# Altium schematic symbol library ComponentsLib.SchLib: 116 symbols (part 1 of 2)
Pins are listed as number, name and electrical type; pins without a type are passive.

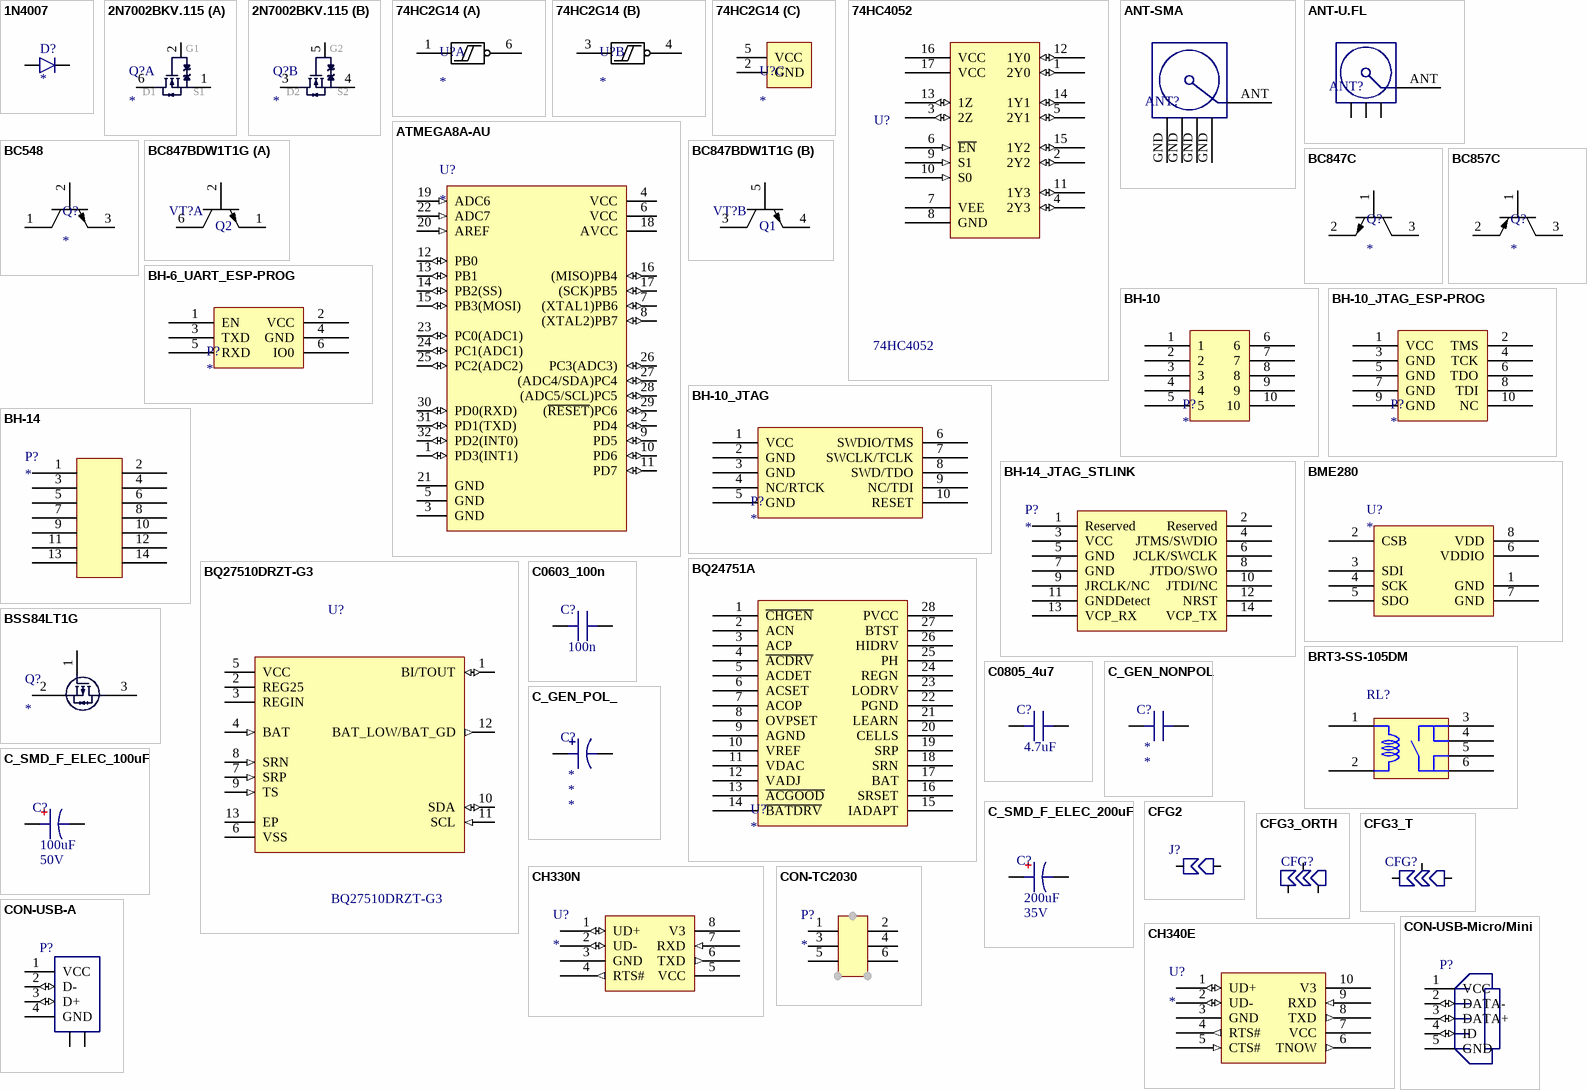
[diagram p0: symbols 1N4007 to CON-USB-Micro/Mini]

## 1N4007
designator D?
footprint DO-41
pins: A POS, C NEG

## 2N7002BKV.115
designator Q?
60 V, 340 mA dual N-channel Trench MOSFET; Kosmodrom: http://www.kosmodrom.com.ua/el.php?name=2N7002BKV.115; PriceKosmodromUAH: 3.5
footprint SOT-666
part A pins: 1 S1, 2 G1, 6 D1
part B pins: 3 D2, 4 S2, 5 G2

## 74HC2G14
designator U?
Dual inverting Schmitt trigger; PriceKosmodromUAH: 4,5; Kosmodrom: http://www.kosmodrom.com.ua/el.php?name=74HC2G14GW.125
footprint SOT363/SOT65P210X110-6N
part A pins: 1 1A, 6 1Y
part B pins: 3 2A, 4 2Y
part C pins: 2 GND, 5 VCC

## 74HC4052
designator U?
Dual 4-channel analog multiplexer/demultiplexer; MP: 74HC4052PW; MF: NXP; Availability: Unavailable; Package: TSSOP-16; Price: None; Value: *
footprint TSSOP16-SOP65P637X110-17N
pins: 1 2Y0 (io), 2 2Y2 (io), 3 2Z (io), 4 2Y3 (io), 5 2Y1 (io), 6 ~{EN} (in), 7 VEE (power), 8 GND (power), 9 S1 (in), 10 S0 (in), 11 1Y3 (io), 12 1Y0 (io), 13 1Z (io), 14 1Y1 (io), 15 1Y2 (io), 16 VCC (power), 17 VCC (power)

## ANT-SMA
designator ANT?, comment SMA  (value not drawn)
Generic SMA connector with 5 pins
footprint SMA-FEMALE-SMT
pins: ANT SIGNAL, GND, GND, GND, GND

## ANT-U.FL
designator ANT?, comment UFL  (value not drawn)
Generic U.FL connector with 1 ANT + 3 GND; Owned: 6; PriceKosmodromUAH: 4,75; PriceRCSUAH: 6; RCS: https://radiomag.prom.ua/p754064376-ipex-vilka-platu.html; Kosmodrom: http://www.kosmodrom.com.ua/el.php?name=U.FL-R-SMT-1[10]
footprint U.FL CONNECTOR
pins: ANT SIGNAL, GND, GND, GND

## ATMEGA8A-AU
designator U?
IC MCU 8BIT 8KB FLASH 32TQFP; MF: Microchip Technology; MP: ATMEGA8A-AU; Value: *; SnapEDA_Link: https://www.snapeda.com/parts/ATMEGA8A-AU/Atmel/view-part/4816316/?ref=snap; Mouser-Purchase-URL: https://snapeda.com/shop?store=Mouser&id=4816316; Price: None; Availability: Unavailable; DigiKey-Purchase-URL: https://snapeda.com/shop?store=DigiKey&id=4816316; Package: None; Arrow_Electronics-Purchase-URL: https://snapeda.com/shop?store=Arrow+Electronics&id=4816316
footprint QFP80P900X900X120-32N
pins: 1 PD3(INT1) (io), 2 PD4 (io), 3 GND (power), 4 VCC (power), 5 GND (power), 6 VCC (power), 7 (XTAL1)PB6 (io), 8 (XTAL2)PB7 (io), 9 PD5 (io), 10 PD6 (io), 11 PD7 (io), 12 PB0 (io), 13 PB1 (io), 14 PB2(SS) (io), 15 PB3(MOSI) (io), 16 (MISO)PB4 (io), 17 (SCK)PB5 (io), 18 AVCC (power), 19 ADC6 (in), 20 AREF (in), 21 GND (power), 22 ADC7 (in), 23 PC0(ADC1) (io), 24 PC1(ADC1) (io), 25 PC2(ADC2) (io), 26 PC3(ADC3) (io), 27 (ADC4/SDA)PC4 (io), 28 (ADC5/SCL)PC5 (io), 29 (~{RESET})PC6 (io), 30 PD0(RXD) (io), 31 PD1(TXD) (io), 32 PD2(INT0) (io)

## BC548
designator Q?
footprint TO-92-BENT-2.54
pins: 1 Collector, 2 Base, 3 Emitter

## BC847BDW1T1G
designator VT?  (value not drawn)
Dual General Purpose Transistors NPN SOT 363; PriceKosmodromUAH: 1,5; Kosmodrom: http://www.kosmodrom.com.ua/el.php?name=BC847BDW1T1G
footprint SOT363/SOT65P210X110-6N
part A pins: 1, 2, 6
part B pins: 3, 4, 5
part A text: Q2
part B text: Q1

## BC847C
designator Q?
NPN general purpose transistors; RCS: https://www.rcscomponents.kiev.ua/product/bc847c-tranzistor-bipolyarnyj-npn_1253.html
footprint SOT-23_TO-236
pins: 1 Collector, 2 Base, 3 Emitter

## BC857C
designator Q?
PNP general purpose transistors; RCS: https://www.rcscomponents.kiev.ua/product/bc857c_2027.html
footprint SOT-23_TO-236
pins: 1 Collector, 2 Base, 3 Emitter

## BH-6_UART_ESP-PROG
designator P?
1,27 mm 2x3 Header; Owned: 20; PriceAliexpress: 7; Aliexpress: https://www.aliexpress.com/item/4000400690967.html?spm=a2g0s.9042311.0.0.cbd34c4duRVTSV
footprint BH-6-SMD-1.27
pins: 1 EN, 2 VCC, 3 TXD, 4 GND, 5 RXD, 6 IO0

## BH-10
designator P?
footprint BH-10-1.27
footprint BH-10-SMD-1.27
footprint BH-10R-1.27
pins: 1, 2, 3, 4, 5, 6, 7, 8, 9, 10

## BH-10_JTAG
designator P?
footprint BH-10-1.27
footprint BH-10-SMD-1.27
footprint BH-10R-1.27
pins: 1 VCC, 2 GND, 3 GND, 4 NC/RTCK, 5 GND, 6 SWDIO/TMS, 7 SWCLK/TCLK, 8 SWD/TDO, 9 NC/TDI, 10 RESET

## BH-10_JTAG_ESP-PROG
designator P?
1,27 mm 2x5 Header; Owned: 10; PriceKosmodromUAH: 7; Kosmodrom: http://www.kosmodrom.com.ua/el.php?name=BH1.27SMD-10
footprint BH-10-1.27
footprint BH-10-SMD-1.27
footprint BH-10R-1.27
pins: 1 VCC, 2 TMS, 3 GND, 4 TCK, 5 GND, 6 TDO, 7 GND, 8 TDI, 9 GND, 10 NC

## BH-14
designator P?
footprint BH-14-1.27
pins: 1, 2, 3, 4, 5, 6, 7, 8, 9, 10, 11, 12, 13, 14

## BH-14_JTAG_STLINK
designator P?
1,27 mm 2x7 Header; Owned: 10; PriceKosmodromUAH: 7,75; Kosmodrom: http://www.kosmodrom.com.ua/el.php?name=BH1.27-14
footprint BH-14-1.27
pins: 1 Reserved, 2 Reserved, 3 VCC, 4 JTMS/SWDIO, 5 GND, 6 JCLK/SWCLK, 7 GND, 8 JTDO/SWO, 9 JRCLK/NC, 10 JTDI/NC, 11 GNDDetect, 12 NRST, 13 VCP_RX, 14 VCP_TX

## BME280
designator U?
Sensor Temperature humidity
footprint BME280 (Footprint not found)
pins: 1 GND, 2 CSB, 3 SDI, 4 SCK, 5 SDO, 6 VDDIO, 7 GND, 8 VDD

## BQ24751A
designator U?
Host-controlled Multi-Chemistry Battery Charger With System Power Selector, AC / Over-Power Protection, Programmable OVP and Low Iq
footprint QFN50P500X500X100-29N
pins: 1 ~{CHGEN}, 2 ACN, 3 ACP, 4 ~{ACDRV}, 5 ACDET, 6 ACSET, 7 ACOP, 8 OVPSET, 9 AGND, 10 VREF, 11 VDAC, 12 VADJ, 13 ~{ACGOOD}, 14 ~{BATDRV}, 15 IADAPT, 16 SRSET, 17 BAT, 18 SRN, 19 SRP, 20 CELLS, 21 LEARN, 22 PGND, 23 LODRV, 24 REGN, 25 PH, 26 HIDRV, 27 BTST, 28 PVCC

## BQ27510DRZT-G3
designator U?
System-Side Impedance-Track Fuel Gauge With Direct Battery Connection 12-SON -40 to 85; MF: Texas Instruments; SnapEDA_Link: https://www.snapeda.com/parts/BQ27510DRZT-G3/Texas%20Instruments/view-part/?ref=snap; Digi-Key_Part_Number: 296-38881-1-ND; Digi-Key_Purchase_URL: https://www.digikey.com/product-detail/en/texas-instruments/BQ27510DRZT-G3/296-38881-1-ND/5142993?utm_source=snapeda&utm_medium=aggregator&utm_campaign=symbol; MP: BQ27510DRZT-G3; Package: SON-12 Texas Instruments; Value: *
footprint SON40P400X250X100-13N
pins: 1 BI/TOUT (io), 2 REG25 (power), 3 REGIN (power), 4 BAT (in), 5 VCC (power), 6 VSS (power), 7 SRP (in), 8 SRN (in), 9 TS (in), 10 SDA (io), 11 SCL (in), 12 BAT_LOW/BAT_GD (out), 13 EP

## BRT3-SS-105DM
designator RL?  (value not drawn)
footprint BRT3-SS-1__DM
pins: 1 C1 (power), 2 C2 (power), 3 TR3 (power), 4 TR4 (power), 5 TR5 (power), 6 TR6 (power)

## BSS84LT1G
designator Q?
Power MOSFET Single P-Channel SOT-23 -50 V, 10 ; PriceKosmodromUAH: 1,75; Kosmodrom: http://www.kosmodrom.com.ua/el.php?name=BSS84LT1G
footprint SOT-23_TO-236
pins: 1 G, 2 S, 3 D

## C0603_100n
designator C?, comment 100n
Capacitor 0603 100n; Value: 100n
footprint C0604
pins: 1, 2

## C0805_4u7
designator C?, comment 4.7uF
Capacitor 0805 4.7uF; Value: 4.7uF
footprint C0805
pins: 1, 2

## C_GEN_NONPOL
designator C?
General capacitor; Capacity: *; Size: *; Value: *
footprint C0604
footprint C0805
footprint C0402
pins: 1, 2

## C_GEN_POL_
designator C?
General capacitor; Capacity: *; Voltage: *; Size: *; Value: *
footprint CAP_SIZE_B
footprint CAP_SIZE_C
pins: 1, 2

## C_SMD_F_ELEC_100uF
designator C?, comment Voltage: 50V  (hidden comment: 100uF)
Electrolythinc Capacitor SMF F 100uF 50V; Value: 100uF
footprint CAP_SMD_F_ELEC
pins: 1, 2

## C_SMD_F_ELEC_200uF
designator C?, comment Voltage: 35V  (hidden comment: 200uF)
Electrolythinc Capacitor SMF F 200uF 35V; Value: 200uF
footprint CAP_SMD_F_ELEC
pins: 1, 2

## CFG2
designator J?  (value not drawn)  (no BOM)
footprint CFG_J_0603
pins: 1 A, 2 IN

## CFG3_ORTH
designator CFG?  (value not drawn)  (no BOM)
footprint CFG_0603
pins: 1 A, 2 IN, 3 B

## CFG3_T
designator CFG?  (value not drawn)  (no BOM)
footprint CFG_0603
pins: 1 A, 2 IN, 3 B

## CH330N
designator U?
pins: 1 UD+ (io), 2 UD- (io), 3 GND (power), 4 RTS# (out), 5 VCC (power), 6 TXD (out), 7 RXD (in), 8 V3 (power)

## CH340E
designator U?
footprint MSOP-10
pins: 1 UD+ (io), 2 UD- (io), 3 GND (power), 4 RTS# (out), 5 CTS# (in), 6 TNOW (out), 7 VCC (power), 8 TXD (out), 9 RXD (in), 10 V3 (power)

## CON-TC2030
designator P?  (no BOM)
Tag Connect TC 2030 footprint
footprint TC2030
pins: 1, 2, 3, 4, 5, 6

## CON-USB-A
designator P?, comment 440247-2  (value not drawn)
Mini/Micro USB B Type RCPT; Availability: Unavailable; Package: None; Price: None; Value: *; PriceKosmodromUAH: 0; Kosmodrom: http://www.kosmodrom.com.ua/; MF: *
footprint USB A type r/a male DIP
footprint USB A type r/a male SMT
pins: 1 VCC (power), 2 D- (io), 3 D+ (io), 4 GND, SHIELD (power), SHIELD (power)

## CON-USB-Micro/Mini
designator P?, comment 440247-2  (value not drawn)
Mini/Micro USB B Type RCPT; MF: TE Connectivity; Availability: Unavailable; Package: None; MP: 440247-2; SnapEDA_Link: https://www.snapeda.com/parts/440247-2/TE%20Connectivity%20AMP%20Connectors/view-part/?ref=snap; TE_purchase_URL: https://www.te.com/usa-en/product-440247-2.html?te_bu=Cor&te_type=disp&te_campaign=seda_glo_cor-seda-global-disp-prtnr-fy19-seda-model-bom-cta_sma-317_1&elqCampaignId=32493; Price: None; Value: *; PriceKosmodromUAH: 2,5; Kosmodrom: http://www.kosmodrom.com.ua/el.php?name=ESB228110100Z
footprint CON-mUSB-FLAT (Mini USB SMD connector)
footprint CON-UUSB-F-2
footprint CON-UUSB-F-HRS_ZX62-AB-5PA - duplicate
footprint CON-U/M_USB-COMBI
pins: 1 VCC (power), 2 DATA- (io), 3 DATA+ (io), 4 ID (io), 5 GND

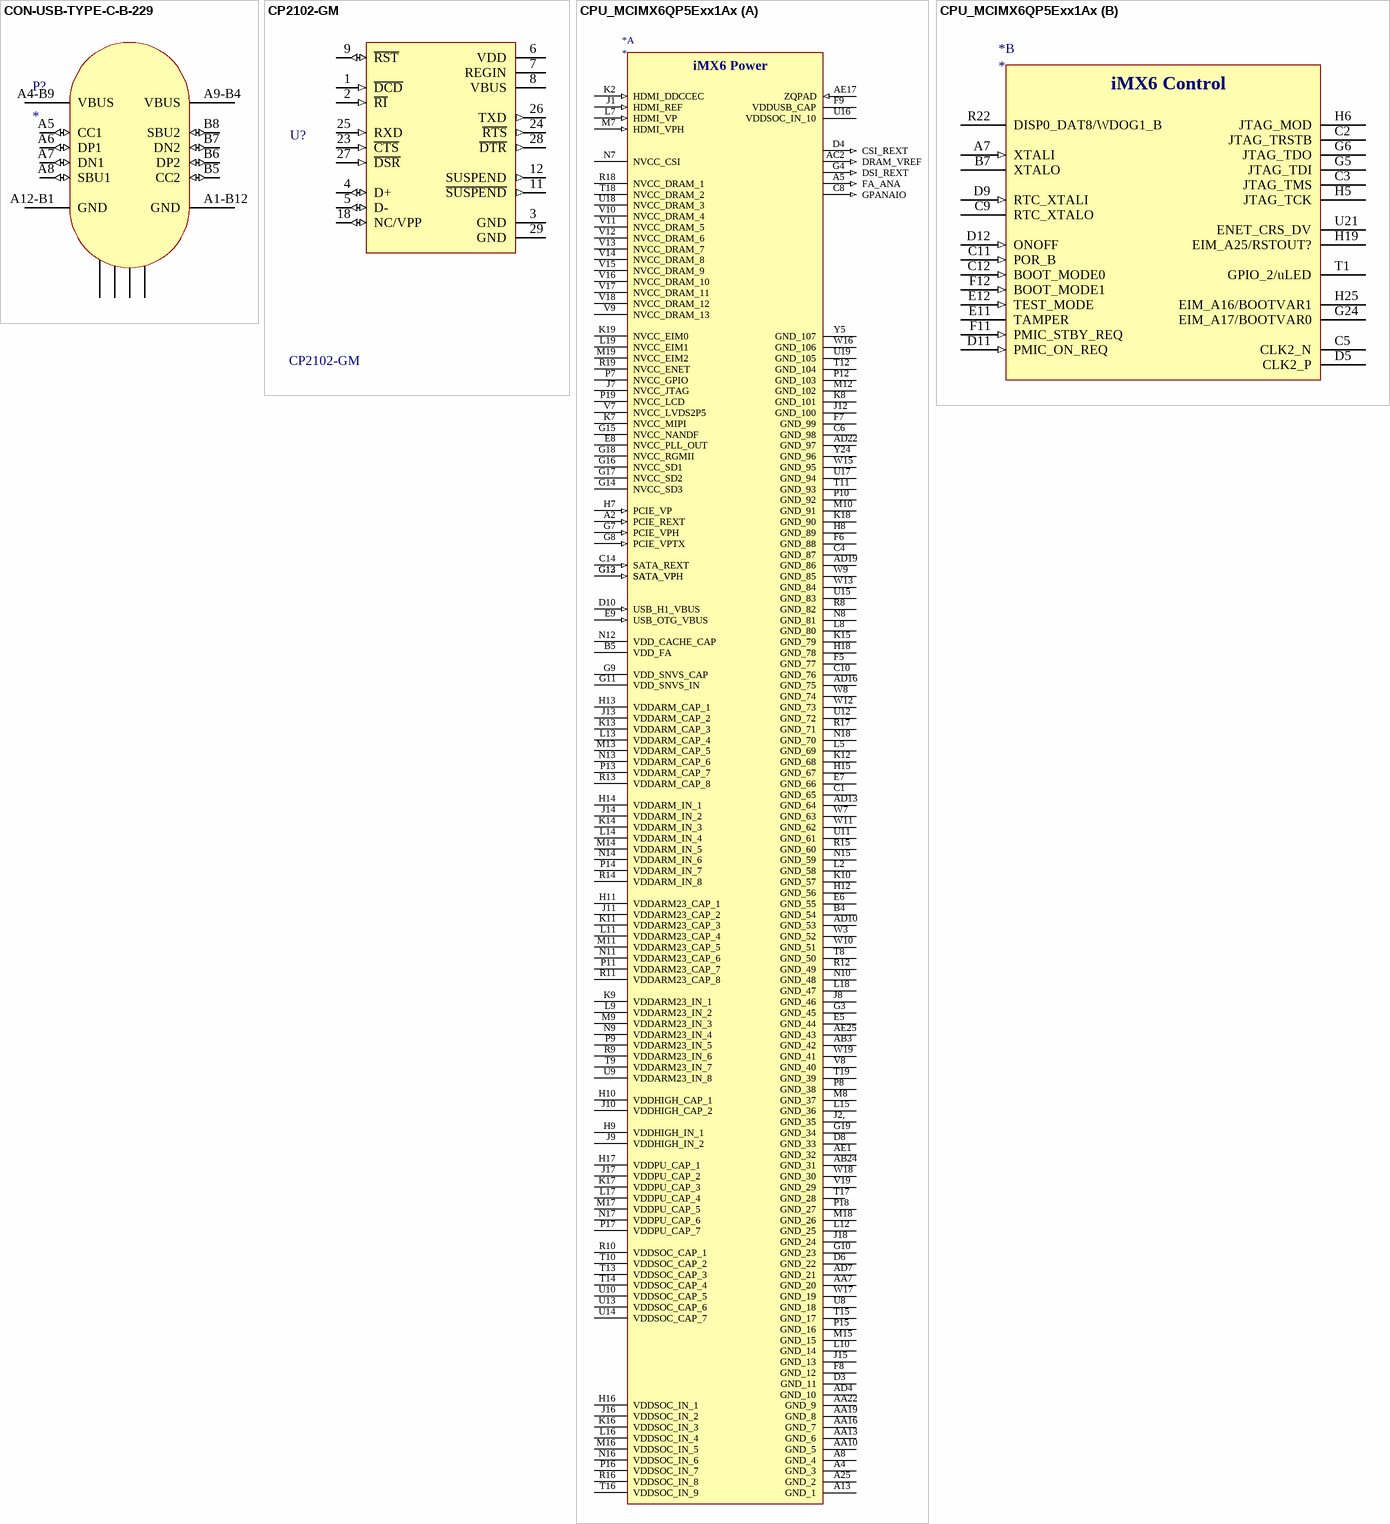
[diagram p1: symbols CON-USB-TYPE-C-B-229 to CPU_MCIMX6QP5Exx1Ax]

## CON-USB-TYPE-C-B-229
designator P?
Type C 3A Throughthole Shell, USB2 + PD SMD pins; PriceKosmodromUAH: 8,25; Kosmodrom: http://www.kosmodrom.com.ua/el.php?name=USB-Type-C-B-229
footprint USB-Type-C-B-229
pins: A1-B12 GND (power), A4-B9 VBUS (power), A5 CC1 (io), A6 DP1 (io), A7 DN1 (io), A8 SBU1 (io), A9-B4 VBUS (power), A12-B1 GND (power), B5 CC2 (io), B6 DP2 (io), B7 DN2 (io), B8 SBU2 (io), SHIELD (power), SHIELD (power), SHIELD (power), SHIELD (power)

## CP2102-GM
designator U?
SINGLE-CHIP USB-TO-UART BRIDGE; MP: CP2102GM; MF: Silicon Labs; Availability: Unavailable; Package: VFQFN-28 Vishay Siliconix; Price: None; SnapEDA_Link: https://www.snapeda.com/parts/CP2102GM/Silicon%20Labs/view-part/?ref=snap; Value: *; PriceKosmodromUAH: 46,75; Kosmodrom: http://www.kosmodrom.com.ua/el.php?name=CP2102-GMR
footprint QFN50P500X500X100-29N
pins: 1 ~{DCD} (in), 2 ~{RI} (in), 3 GND (power), 4 D+ (io), 5 D- (io), 6 VDD (power), 7 REGIN (power), 8 VBUS (power), 9 ~{RST} (io), 11 ~{SUSPEND} (out), 12 SUSPEND (out), 18 NC/VPP (io), 23 ~{CTS} (in), 24 ~{RTS} (out), 25 RXD (in), 26 TXD (out), 27 ~{DSR} (in), 28 ~{DTR} (out), 29 GND (power)

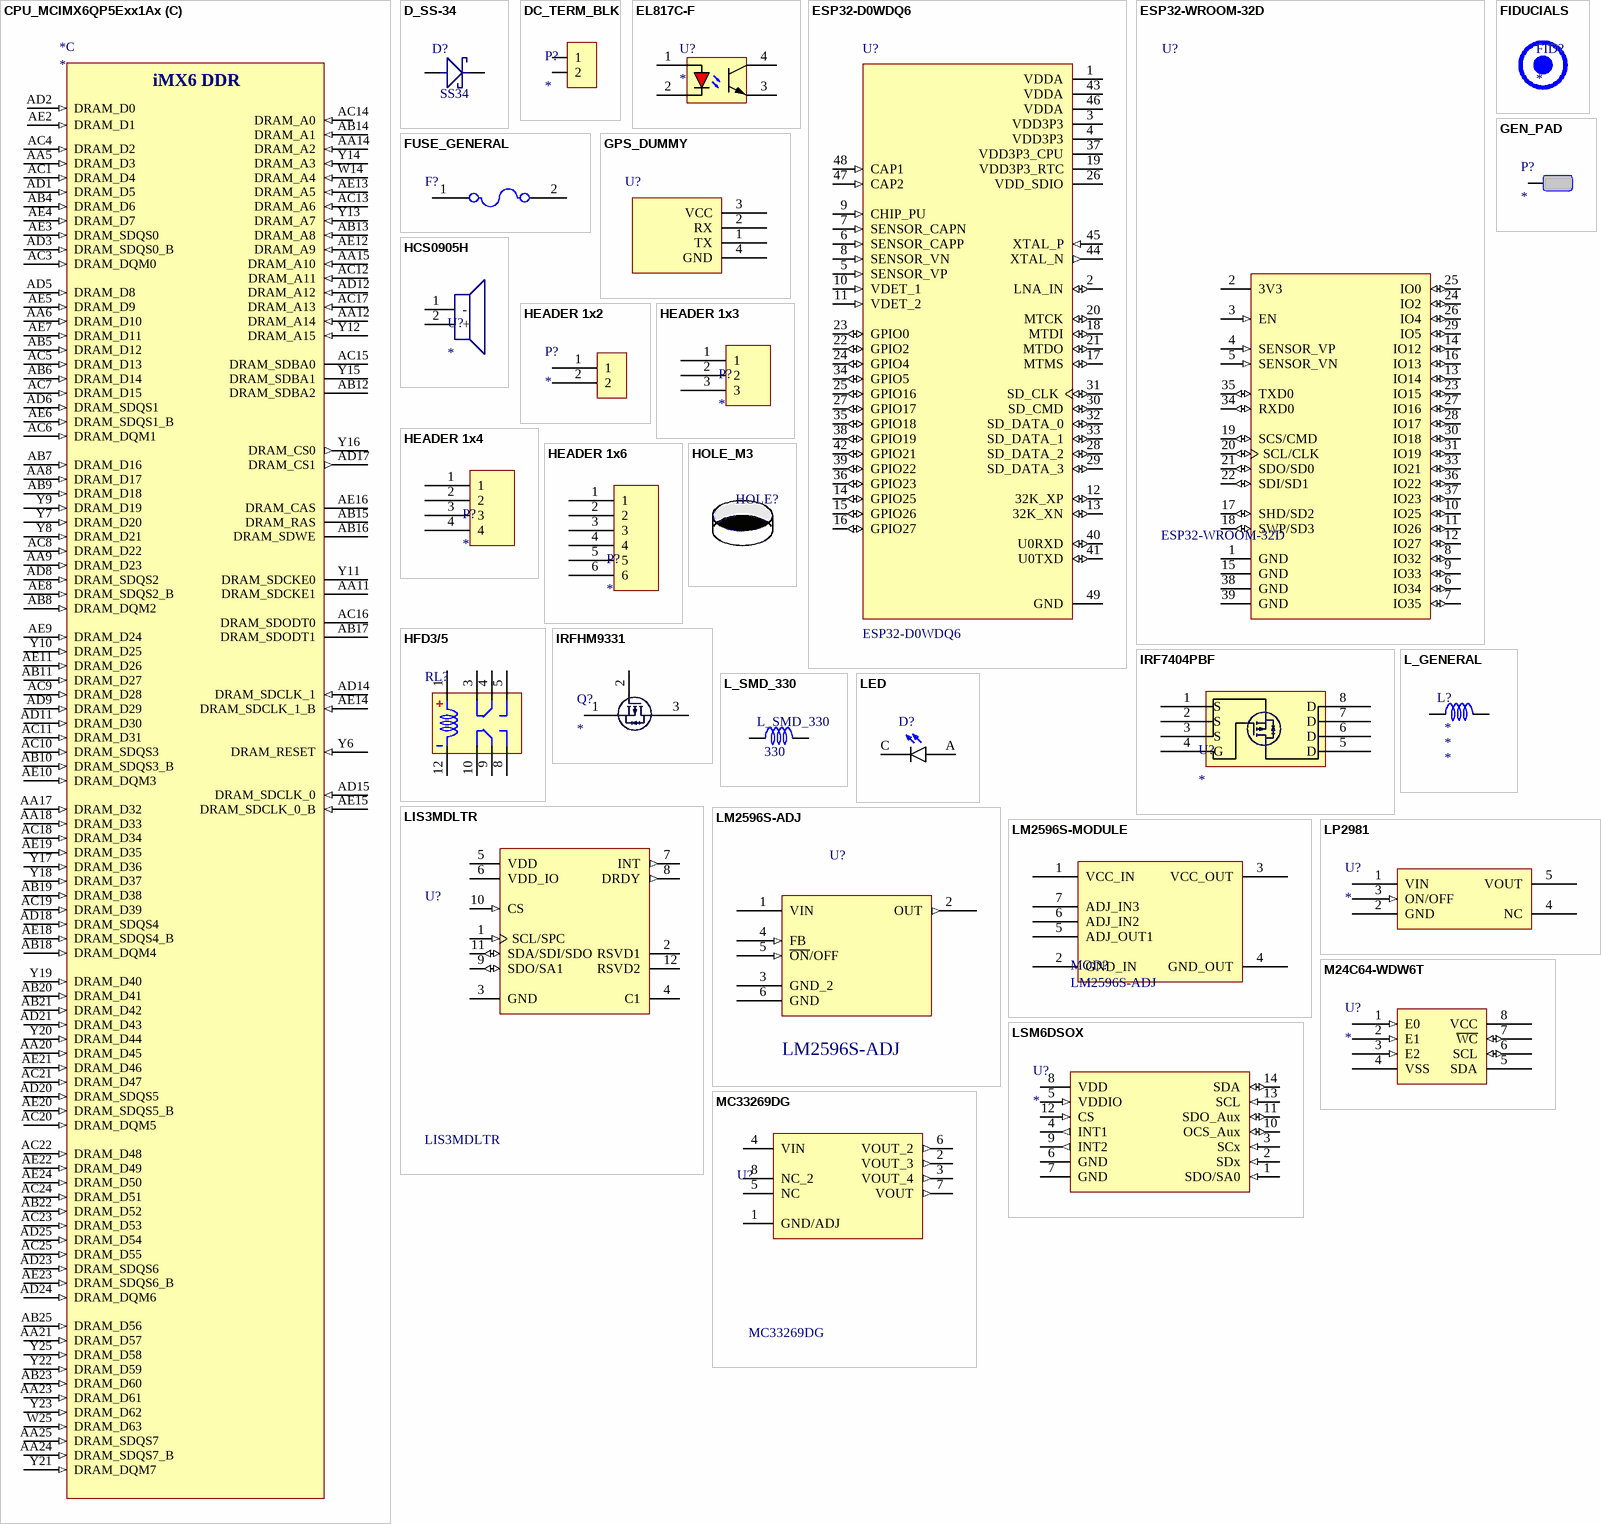
[diagram p2: symbols CPU_MCIMX6QP5Exx1Ax to MC33269DG]

## CPU_MCIMX6QP5Exx1Ax
designator *
footprint BGA624CP80_25X25_2100X2100X160N
part A pins: A2 PCIE_REXT (in), A4 GND_3 (power), A5 FA_ANA (in), A8 GND_4 (power), A13 GND_1 (power), A25 GND_2 (power), AA7 GND_20 (power), AA10 GND_5 (power), AA13 GND_6 (power), AA16 GND_7 (power), AA19 GND_8 (power), AA22 GND_9 (power), AB3 GND_42 (power), AB24 GND_31 (power), AC2 DRAM_VREF (in), AD4 GND_10 (power), AD7 GND_21 (power), AD10 GND_53 (power), AD13 GND_64 (power), AD16 GND_75 (power), AD19 GND_86 (power), AD22 GND_97 (power), AE1 GND_32 (power), AE17 ZQPAD (in), AE25 GND_43 (power), B4 GND_54 (power), B5 VDD_FA (power), C1 GND_65 (power), C4 GND_87 (power), C6 GND_98 (power), C8 GPANAIO (in), C10 GND_76 (power), C14 SATA_REXT (in), D3 GND_11 (power), D4 CSI_REXT (in), D6 GND_22 (power), D8 GND_33 (power), D10 USB_H1_VBUS (in), E5 GND_44 (power), E6 GND_55 (power), E7 GND_66 (power), E8 NVCC_PLL_OUT (power), E9 USB_OTG_VBUS (in), F5 GND_77 (power), F6 GND_88 (power), F7 GND_99 (power), F8 GND_12 (power), F9 VDDUSB_CAP (power), G3 GND_45 (power), G4 DSI_REXT (in), G7 PCIE_VPH (in), G8 PCIE_VPTX (in), G9 VDD_SNVS_CAP (power), G10 GND_23 (power), G11 VDD_SNVS_IN (power), G12 SATA_VPH (in), G13 SATA_VP (in), G14 NVCC_SD3 (power), G15 NVCC_NANDF (power), G16 NVCC_SD1 (power), G17 NVCC_SD2 (power), G18 NVCC_RGMII (power), G19 GND_34 (power), H7 PCIE_VP (in), H8 GND_89 (power), H9 VDDHIGH_IN_1 (power), H10 VDDHIGH_CAP_1 (power), H11 VDDARM23_CAP_1 (power), H12 GND_56 (power), H13 VDDARM_CAP_1 (power), H14 VDDARM_IN_1 (power), H15 GND_67 (power), H16 VDDSOC_IN_1 (power), H17 VDDPU_CAP_1 (power), H18 GND_78 (power), J1 HDMI_REF (in), J2, GND_35 (power), J7 NVCC_JTAG (power), J8 GND_46 (power), J9 VDDHIGH_IN_2 (power), J10 VDDHIGH_CAP_2 (power), J11 VDDARM23_CAP_2 (power), J12 GND_100 (power), J13 VDDARM_CAP_2 (power), J14 VDDARM_IN_2 (power), J15 GND_13 (power), J16 VDDSOC_IN_2 (power), J17 VDDPU_CAP_2 (power), J18 GND_24 (power), K2 HDMI_DDCCEC (in), K7 NVCC_MIPI (power), K8 GND_101 (power), K9 VDDARM23_IN_1 (power), K10 GND_57 (power), K11 VDDARM23_CAP_3 (power), K12 GND_68 (power), K13 VDDARM_CAP_3 (power), K14 VDDARM_IN_3 (power), K15 GND_79 (power), K16 VDDSOC_IN_3 (power), K17 VDDPU_CAP_3 (power), K18 GND_90 (power), K19 NVCC_EIM0 (power), L2 GND_58 (power), L5 GND_69 (power), L7 HDMI_VP (in), L8 GND_80 (power), L9 VDDARM23_IN_2 (power), L10 GND_14 (power), L11 VDDARM23_CAP_4 (power), L12 GND_25 (power), L13 VDDARM_CAP_4 (power), L14 VDDARM_IN_4 (power), L15 GND_36 (power), L16 VDDSOC_IN_4 (power), L17 VDDPU_CAP_4 (power), L18 GND_47 (power), L19 NVCC_EIM1 (power), M7 HDMI_VPH (in), M8 GND_37 (power), M9 VDDARM23_IN_3 (power), M10 GND_91 (power), M11 VDDARM23_CAP_5 (power), M12 GND_102 (power), M13 VDDARM_CAP_5 (power), M14 VDDARM_IN_5 (power), M15 GND_15 (power), M16 VDDSOC_IN_5 (power), M17 VDDPU_CAP_5 (power), M18 GND_26 (power), M19 NVCC_EIM2 (power), N7 NVCC_CSI (power), N8 GND_81 (power), N9 VDDARM23_IN_4 (power), N10 GND_48 (power), N11 VDDARM23_CAP_6 (power), N12 VDD_CACHE_CAP (power), N13 VDDARM_CAP_6 (power), N14 VDDARM_IN_6 (power), N15 GND_59 (power), N16 VDDSOC_IN_6 (power), N17 VDDPU_CAP_6 (power), N18 GND_70 (power), P7 NVCC_GPIO (power), P8 GND_38 (power), P9 VDDARM23_IN_5 (power), P10 GND_92 (power), P11 VDDARM23_CAP_7 (power), P12 GND_103 (power), P13 VDDARM_CAP_7 (power), P14 VDDARM_IN_7 (power), P15 GND_16 (power), P16 VDDSOC_IN_7 (power), P17 VDDPU_CAP_7 (power), P18 GND_27 (power), P19 NVCC_LCD (power), R8 GND_82 (power), R9 VDDARM23_IN_6 (power), R10 VDDSOC_CAP_1 (power), R11 VDDARM23_CAP_8 (power), R12 GND_49 (power), R13 VDDARM_CAP_8 (power), R14 VDDARM_IN_8 (power), R15 GND_60 (power), R16 VDDSOC_IN_8 (power), R17 GND_71 (power), R18 NVCC_DRAM_1 (power), R19 NVCC_ENET (power), T8 GND_50 (power), T9 VDDARM23_IN_7 (power), T10 VDDSOC_CAP_2 (power), T11 GND_93 (power), T12 GND_104 (power), T13 VDDSOC_CAP_3 (power), T14 VDDSOC_CAP_4 (power), T15 GND_17 (power), T16 VDDSOC_IN_9 (power), T17 GND_28 (power), T18 NVCC_DRAM_2 (power), T19 GND_39 (power), U8 GND_18 (power), U9 VDDARM23_IN_8 (power), U10 VDDSOC_CAP_5 (power), U11 GND_61 (power), U12 GND_72 (power), U13 VDDSOC_CAP_6 (power), U14 VDDSOC_CAP_7 (power), U15 GND_83 (power), U16 VDDSOC_IN_10 (power), U17 GND_94 (power), U18 NVCC_DRAM_3 (power), U19 GND_105 (power), V7 NVCC_LVDS2P5 (power), V8 GND_40 (power), V9 NVCC_DRAM_13 (power), V10 NVCC_DRAM_4 (power), V11 NVCC_DRAM_5 (power), V12 NVCC_DRAM_6 (power), V13 NVCC_DRAM_7 (power), V14 NVCC_DRAM_8 (power), V15 NVCC_DRAM_9 (power), V16 NVCC_DRAM_10 (power), V17 NVCC_DRAM_11 (power), V18 NVCC_DRAM_12 (power), V19 GND_29 (power), W3 GND_52 (power), W7 GND_63 (power), W8 GND_74 (power), W9 GND_85 (power), W10 GND_51 (power), W11 GND_62 (power), W12 GND_73 (power), W13 GND_84 (power), W15 GND_95 (power), W16 GND_106 (power), W17 GND_19 (power), W18 GND_30 (power), W19 GND_41 (power), Y5 GND_107 (power), Y24 GND_96 (power)
part B pins: A7 XTALI (in), B7 XTALO (power), C2 JTAG_TRSTB (power), C3 JTAG_TMS (power), C5 CLK2_N (power), C9 RTC_XTALO (power), C11 POR_B (in), C12 BOOT_MODE0 (in), D5 CLK2_P (power), D9 RTC_XTALI (in), D11 PMIC_ON_REQ (in), D12 ONOFF (in), E11 TAMPER (power), E12 TEST_MODE (in), F11 PMIC_STBY_REQ (in), F12 BOOT_MODE1 (in), G5 JTAG_TDI (power), G6 JTAG_TDO (power), G24 EIM_A17/BOOTVAR0 (power), H5 JTAG_TCK (power), H6 JTAG_MOD (power), H19 EIM_A25/RSTOUT? (power), H25 EIM_A16/BOOTVAR1 (power), R22 DISP0_DAT8/WDOG1_B (power), T1 GPIO_2/uLED (power), U21 ENET_CRS_DV (power)
part C pins: AA5 DRAM_D3 (in), AA6 DRAM_D10 (in), AA8 DRAM_D17 (in), AA9 DRAM_D23 (in), AA11 DRAM_SDCKE1, AA12 DRAM_A14 (in), AA14 DRAM_A2 (in), AA15 DRAM_A10 (in), AA17 DRAM_D32 (in), AA18 DRAM_D33 (in), AA20 DRAM_D45 (in), AA21 DRAM_D57 (in), AA23 DRAM_D61 (in), AA24 DRAM_SDQS7_B (in), AA25 DRAM_SDQS7 (in), AB4 DRAM_D6 (in), AB5 DRAM_D12 (in), AB6 DRAM_D14 (in), AB7 DRAM_D16 (in), AB8 DRAM_DQM2 (in), AB9 DRAM_D18 (in), AB10 DRAM_SDQS3_B (in), AB11 DRAM_D27 (in), AB12 DRAM_SDBA2, AB13 DRAM_A8 (in), AB14 DRAM_A1 (in), AB15 DRAM_RAS, AB16 DRAM_SDWE, AB17 DRAM_SDODT1, AB18 DRAM_DQM4 (in), AB19 DRAM_D38 (in), AB20 DRAM_D41 (in), AB21 DRAM_D42 (in), AB22 DRAM_D52 (in), AB23 DRAM_D60 (in), AB25 DRAM_D56 (in), AC1 DRAM_D4 (in), AC3 DRAM_DQM0 (in), AC4 DRAM_D2 (in), AC5 DRAM_D13 (in), AC6 DRAM_DQM1 (in), AC7 DRAM_D15 (in), AC8 DRAM_D22 (in), AC9 DRAM_D28 (in), AC10 DRAM_SDQS3 (in), AC11 DRAM_D31 (in), AC12 DRAM_A11 (in), AC13 DRAM_A6 (in), AC14 DRAM_A0 (in), AC15 DRAM_SDBA0, AC16 DRAM_SDODT0, AC17 DRAM_A13 (in), AC18 DRAM_D34 (in), AC19 DRAM_D39 (in), AC20 DRAM_DQM5 (in), AC21 DRAM_D47 (in), AC22 DRAM_D48 (in), AC23 DRAM_D53 (in), AC24 DRAM_D51 (in), AC25 DRAM_D55 (in), AD1 DRAM_D5 (in), AD2 DRAM_D0 (in), AD3 DRAM_SDQS0_B (in), AD5 DRAM_D8 (in), AD6 DRAM_SDQS1 (in), AD8 DRAM_SDQS2 (in), AD9 DRAM_D29 (in), AD11 DRAM_D30 (in), AD12 DRAM_A12 (in), AD14 DRAM_SDCLK_1 (in), AD15 DRAM_SDCLK_0 (in), AD17 DRAM_CS1 (out), AD18 DRAM_SDQS4 (in), AD20 DRAM_SDQS5 (in), AD21 DRAM_D43 (in), AD23 DRAM_SDQS6 (in), AD24 DRAM_DQM6 (in), AD25 DRAM_D54 (in), AE2 DRAM_D1 (in), AE3 DRAM_SDQS0 (in), AE4 DRAM_D7 (in), AE5 DRAM_D9 (in), AE6 DRAM_SDQS1_B (in), AE7 DRAM_D11 (in), AE8 DRAM_SDQS2_B (in), AE9 DRAM_D24 (in), AE10 DRAM_DQM3 (in), AE11 DRAM_D26 (in), AE12 DRAM_A9 (in), AE13 DRAM_A5 (in), AE14 DRAM_SDCLK_1_B (in), AE15 DRAM_SDCLK_0_B (in), AE16 DRAM_CAS, AE18 DRAM_SDQS4_B (in), AE19 DRAM_D35 (in), AE20 DRAM_SDQS5_B (in), AE21 DRAM_D46 (in), AE22 DRAM_D49 (in), AE23 DRAM_SDQS6_B (in), AE24 DRAM_D50 (in), W14 DRAM_A4 (in), W25 DRAM_D63 (in), Y6 DRAM_RESET (in), Y7 DRAM_D20 (in), Y8 DRAM_D21 (in), Y9 DRAM_D19 (in), Y10 DRAM_D25 (in), Y11 DRAM_SDCKE0, Y12 DRAM_A15 (in), Y13 DRAM_A7 (in), Y14 DRAM_A3 (in), Y15 DRAM_SDBA1, Y16 DRAM_CS0 (out), Y17 DRAM_D36 (in), Y18 DRAM_D37 (in), Y19 DRAM_D40 (in), Y20 DRAM_D44 (in), Y21 DRAM_DQM7 (in), Y22 DRAM_D59 (in), Y23 DRAM_D62 (in), Y25 DRAM_D58 (in)
part A text: iMX6 Power
part B text: iMX6 Сontrol
part C text: iMX6 DDR

## D_SS-34
designator D?, comment Name: SS34  (hidden comment: SMD-DIODE-SCHOTTKY-40V-3A(DO-214AB))
Rectifier, Schottky; DO-214AB; 3.0A IF; 0.75V; 40V; 100A IFRM; 10000V/us; 1000pF; MF: Vishay; MP: SS34-E3/57T; Package: DO-214 Vishay; Price: 0.33 USD; SnapEDA_Link: https://www.snapeda.com/symbols-footprints/SS34-E3/57T/Vishay%20Semiconductor%20Diodes%20Division/view-part/?ref=snap; Availability: Good; Value: *; PriceRCSUAH: 4; RCS: https://www.rcscomponents.kiev.ua/product/ss34a_123319.html
footprint DO-214AB
footprint DO-214AC
pins: A POS, C NEG

## DC_TERM_BLK
designator P?
PriceRCSUAH: 1,75; RCS: https://www.rcscomponents.kiev.ua/product/klemmnik-dg301-5-0-02p-12-00a-h-2kont-sinij-shlicz-degson_19759.html
footprint TERM_BLK_2.54
pins: 1, 2

## EL817C-F
designator U?
Phototransistor photocoupler
footprint DIP4
pins: 1 A, 2 Ca, 3 E, 4 Co

## ESP32-D0WDQ6
designator U?
SoC; 2, 412G÷2, 484GHz; -98dBm; 2.2÷3.6VDC; SMD; QFN48; 19.5dBm; 16MB; MF: Espressif Systems; Package: VFQFN-48 Espressif Systems; Availability: Unavailable; MP: ESP32-D0WDQ6; SnapEDA_Link: https://www.snapeda.com/parts/ESP32-D0WDQ6/Espressif%20Systems/view-part/?ref=snap; Price: None; Value: *
footprint QFN35P500X500X90-49N
pins: 1 VDDA (power), 2 LNA_IN (io), 3 VDD3P3 (power), 4 VDD3P3 (power), 5 SENSOR_VP (in), 6 SENSOR_CAPP (in), 7 SENSOR_CAPN (in), 8 SENSOR_VN (in), 9 CHIP_PU (in), 10 VDET_1 (in), 11 VDET_2 (in), 12 32K_XP (io), 13 32K_XN (io), 14 GPIO25 (io), 15 GPIO26 (io), 16 GPIO27 (io), 17 MTMS (io), 18 MTDI (io), 19 VDD3P3_RTC (power), 20 MTCK (io), 21 MTDO (io), 22 GPIO2 (io), 23 GPIO0 (io), 24 GPIO4 (io), 25 GPIO16 (io), 26 VDD_SDIO (power), 27 GPIO17 (io), 28 SD_DATA_2 (io), 29 SD_DATA_3 (io), 30 SD_CMD (io), 31 SD_CLK (io), 32 SD_DATA_0 (io), 33 SD_DATA_1 (io), 34 GPIO5 (io), 35 GPIO18 (io), 36 GPIO23 (io), 37 VDD3P3_CPU (power), 38 GPIO19 (io), 39 GPIO22 (io), 40 U0RXD (io), 41 U0TXD (io), 42 GPIO21 (io), 43 VDDA (power), 44 XTAL_N (out), 45 XTAL_P (in), 46 VDDA (power), 47 CAP2 (in), 48 CAP1 (in), 49 GND (power)

## ESP32-WROOM-32D
designator U?
/ IC: SoC; GPIO, I2C, I2S, IR, SD, SDIO, SPI, UART; 2.7Г·3.6VDC; 20dBm /; MF: Espressif Systems; Owned: 2; MP: ESP32-WROOM-32D; Package: Module Espressif Systems; Availability: Unavailable; Price: None; SnapEDA_Link: https://www.snapeda.com/parts/ESP32-WROOM-32D/Espressif%20Systems/view-part/?ref=snap; Value: *; PriceUAH: 135; PriceAliexpress: 2,5; OtherUA: https://www.olx.ua/uk/obyavlenie/esp-wroom-32-esp-32-module-IDGzoQv.html; Aliexpress: https://www.aliexpress.com/item/32963147246.html
footprint ESP32-WROOM-32
pins: 1 GND (power), 2 3V3 (power), 3 EN (in), 4 SENSOR_VP (in), 5 SENSOR_VN (in), 6 IO34 (io), 7 IO35 (io), 8 IO32 (io), 9 IO33 (io), 10 IO25 (io), 11 IO26 (io), 12 IO27 (io), 13 IO14 (io), 14 IO12 (io), 15 GND (power), 16 IO13 (io), 17 SHD/SD2 (io), 18 SWP/SD3 (io), 19 SCS/CMD (io), 20 SCL/CLK (io), 21 SDO/SD0 (io), 22 SDI/SD1 (io), 23 IO15 (io), 24 IO2 (io), 25 IO0 (io), 26 IO4 (io), 27 IO16 (io), 28 IO17 (io), 29 IO5 (io), 30 IO18 (io), 31 IO19 (io), 33 IO21 (io), 34 RXD0 (io), 35 TXD0 (io), 36 IO22 (io), 37 IO23 (io), 38 GND (power), 39 GND (power)

## FIDUCIALS
designator FID?  (no BOM)
footprint FID_C_2-1
footprint FID_C_5-3-1

## FUSE_GENERAL
designator F?  (value not drawn)
footprint FUSE_1.8x3.2
pins: 1, 2

## GEN_PAD
designator P?  (no BOM)
footprint PAD_2X1
pins: 1

## GPS_DUMMY
designator U?  (value not drawn)
Stub for GPS component
pins: 1 TX, 2 RX, 3 VCC, 4 GND

## HCS0905H
designator U?
5V Buzzer GEN
footprint HCS09H
footprint HCS09H_THROUGH_HOLE
pins: 1 -, 2 +

## HEADER 1x2
designator P?
footprint HEADER 1x2 2.54
pins: 1, 2

## HEADER 1x3
designator P?
footprint UART_2.54
pins: 1, 2, 3

## HEADER 1x4
designator P?
footprint HEADER 1x4 2.54
pins: 1, 2, 3, 4

## HEADER 1x6
designator P?
footprint HEADER 1x6 2.54
pins: 1, 2, 3, 4, 5, 6

## HFD3/5
designator RL?  (value not drawn)
footprint HFD3
pins: 1 C1 (power), 3 TR3 (power), 4 TR4 (power), 5 TR5 (power), 8 TR6 (power), 9 TR6 (power), 10 TR6 (power), 12 C2 (power)

## HOLE_M3
designator HOLE?  (value not drawn)  (no BOM)
footprint HOLE_M3
pins: 4

## IRF7404PBF
designator U?
footprint SO-8-SOIC127P600X175-8N
pins: 1 S, 2 S, 3 S, 4 G, 5 D, 6 D, 7 D, 8 D

## IRFHM9331
designator Q?
-30V Single P-Channel HEXFET Power MOSFET in a PQFN 3mm x 3mm package; PriceKosmodromUAH: 11,75; Kosmodrom: http://www.kosmodrom.com.ua/el.php?name=IRFHM9331TRPBF
footprint PQFN-3x3
pins: 1 S, 2 G, 3 D

## L_GENERAL
designator L?
Inductor Generic; Value: *; Current: *; Inductivity: *; Size: *
footprint C0805
footprint L0603
footprint L_CDRH4D18
footprint L_CDRH104R
footprint L_CDRH8D43
footprint L_SND0705
footprint L_CDRH6D28
pins: 1, 2

## L_SMD_330
designator L_SMD_330, comment 330
SMD Inductor 330; Value: 330
footprint L_SMD
pins: 1, 2

## LED
designator D?
Led General; MF: Dialight; MP: 598-8140-107F; Owned: 3000; SnapEDA_Link: https://www.snapeda.com/parts/598-8140-107F/Dialight/view-part/?ref=snap; Price: None; Availability: Unavailable; Package: 0805 Dialight; Value: *
footprint LED_0604
footprint LED_0805
footprint LED_0402
footprint LED_0805_INVERTED
footprint LED_DIP_5MM
footprint LED_DIP_5MM BENT
pins: A, C

## LIS3MDLTR
designator U?
/ LIS3MDL Series 3 Axis В±2/В±8/В±12/В±16 g 3.6V High Performance Magnetometer LGA-12 /; MF: STMicroelectronics; Package: VFLGA-12 STMicroelectronics; MP: LIS3MDLTR; Availability: Unavailable; Price: None; SnapEDA_Link: https://www.snapeda.com/parts/LIS3MDLTR/STMicroelectronics/view-part/?ref=snap; Value: *; PriceKosmodromUAH: 57,5; Kosmodrom: http://www.kosmodrom.com.ua/el.php?name=LIS3MDLTR
footprint VFLGA-12
pins: 1 SCL/SPC (in), 2 RSVD1, 3 GND (power), 4 C1, 5 VDD (power), 6 VDD_IO (power), 7 INT (out), 8 DRDY (out), 9 SDO/SA1 (io), 10 CS (in), 11 SDA/SDI/SDO (io), 12 RSVD2

## LM2596S-ADJ
designator U?
MF: Texas; Availability: Unavailable; Package: TO-263-6 NEC; Price: None; SnapEDA_Link: https://www.snapeda.com/symbols-footprints/LM2596S-ADJ/Texas%20Instruments/view-part/?ref=snap; Value: *; MP: LM2596S-ADJ
footprint TO170P1435X465-6N
pins: 1 VIN (power), 2 OUT (out), 3 GND_2, 4 FB (in), 5 ~{ON}/OFF (in), 6 GND

## LM2596S-MODULE
designator MOD?, comment LM2596S-ADJ
DC-DC MODULE LM2596s; MP: LM2596S-ADJ
footprint LM2596S-MODULE
pins: 1 VCC_IN, 2 GND_IN, 3 VCC_OUT, 4 GND_OUT, 5 ADJ_OUT1, 6 ADJ_IN2, 7 ADJ_IN3

## LP2981
designator U?
footprint SOT-23-5
pins: 1 VIN (power) "Supply input", 2 GND (power) "Ground", 3 ON/OFF (in) "Active-low shutdown pin. Tie to VIN if unused.", 4 NC "No connect", 5 VOUT (power) "Voltage output"

## LSM6DSOX
designator U?
Gygo and acceletometer programmable I2C master IC; Owned: 10; PriceDigiKey: 5,25; PriceMouser: 4,76; DigiKey: https://www.digikey.com/product-detail/en/stmicroelectronics/LSM6DSOXTR/497-18367-1-ND/9841887; Mouser: https://www.mouser.com/ProductDetail/STMicroelectronics/LSM6DSOXTR?qs=sGAEpiMZZMve4%2FbfQkoj%252BFvk5v0Gskwou%2F%2FEWTdvAK0%3D
footprint LGA-14L-PQFN50P250X300X86-14N
pins: 1 SDO/SA0 (in), 2 SDx (in), 3 SCx (in), 4 INT1 (out), 5 VDDIO (in), 6 GND (power), 7 GND (power), 8 VDD (power), 9 INT2 (out), 10 OCS_Aux (io), 11 SDO_Aux (io), 12 CS (in), 13 SCL (in), 14 SDA (io)

## M24C64-WDW6T
designator U?
64Kbit Serial I2C Bus EEPROM; PriceUAH: -; PriceKosmodromUAH: 5; Kosmodrom: http://www.kosmodrom.com.ua/el.php?name=M24C64-WMN6TP
footprint TSS0P8
footprint SO-8-SOIC127P600X175-8N
pins: 1 E0 (in), 2 E1 (in), 3 E2 (in), 4 VSS (power), 5 SDA (power), 6 SCL (io), 7 ~{WC} (io), 8 VCC (power)

## MC33269DG
designator U?
MC33269 Series 800 mA Adjustable Output SMT LDO Voltage Regulator - SOIC-8; MF: ON Semiconductor; SnapEDA_Link: https://www.snapeda.com/parts/MC33269DG/ON%20Semiconductor/view-part/?ref=snap; Availability: Unavailable; MP: MC33269DG; Price: None; Package: SOIC-8 ON Semiconductor; Value: *
footprint SO-8-SOIC127P600X175-8N
pins: 1 GND/ADJ, 2 VOUT_3 (out), 3 VOUT_4 (out), 4 VIN (power), 5 NC, 6 VOUT_2 (out), 7 VOUT (out), 8 NC_2

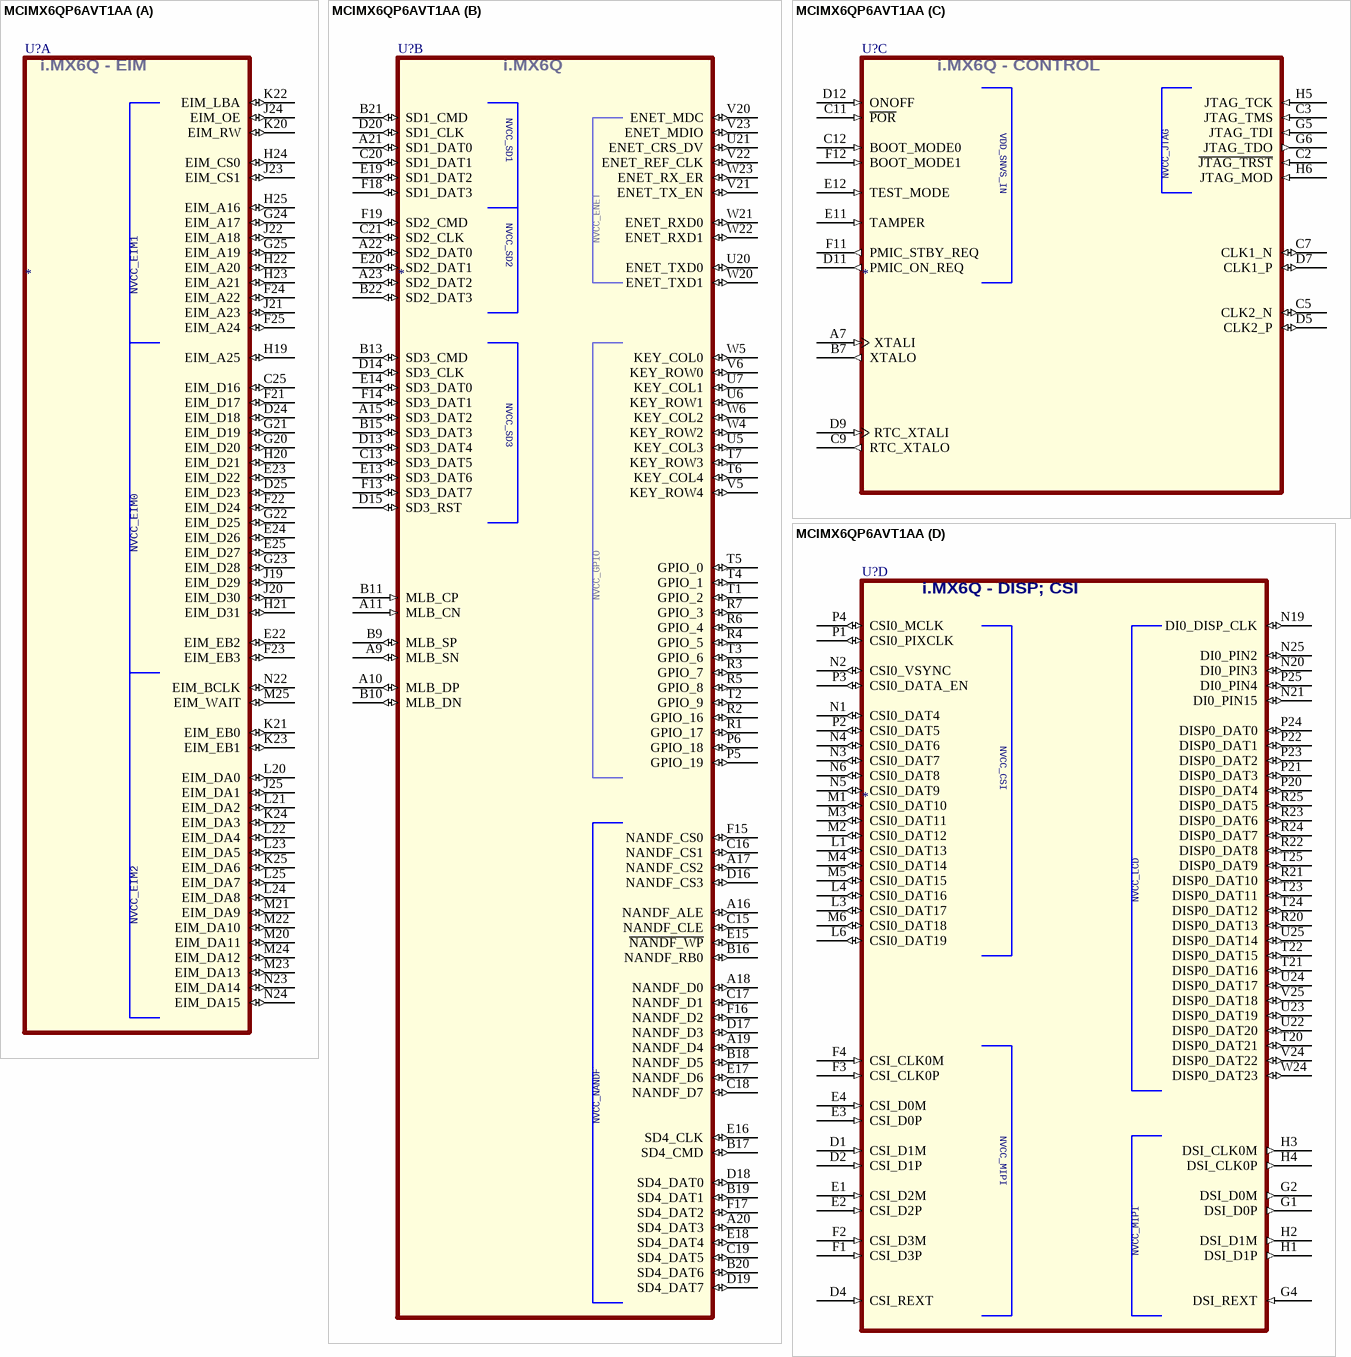
[diagram p3: symbol MCIMX6QP6AVT1AA]

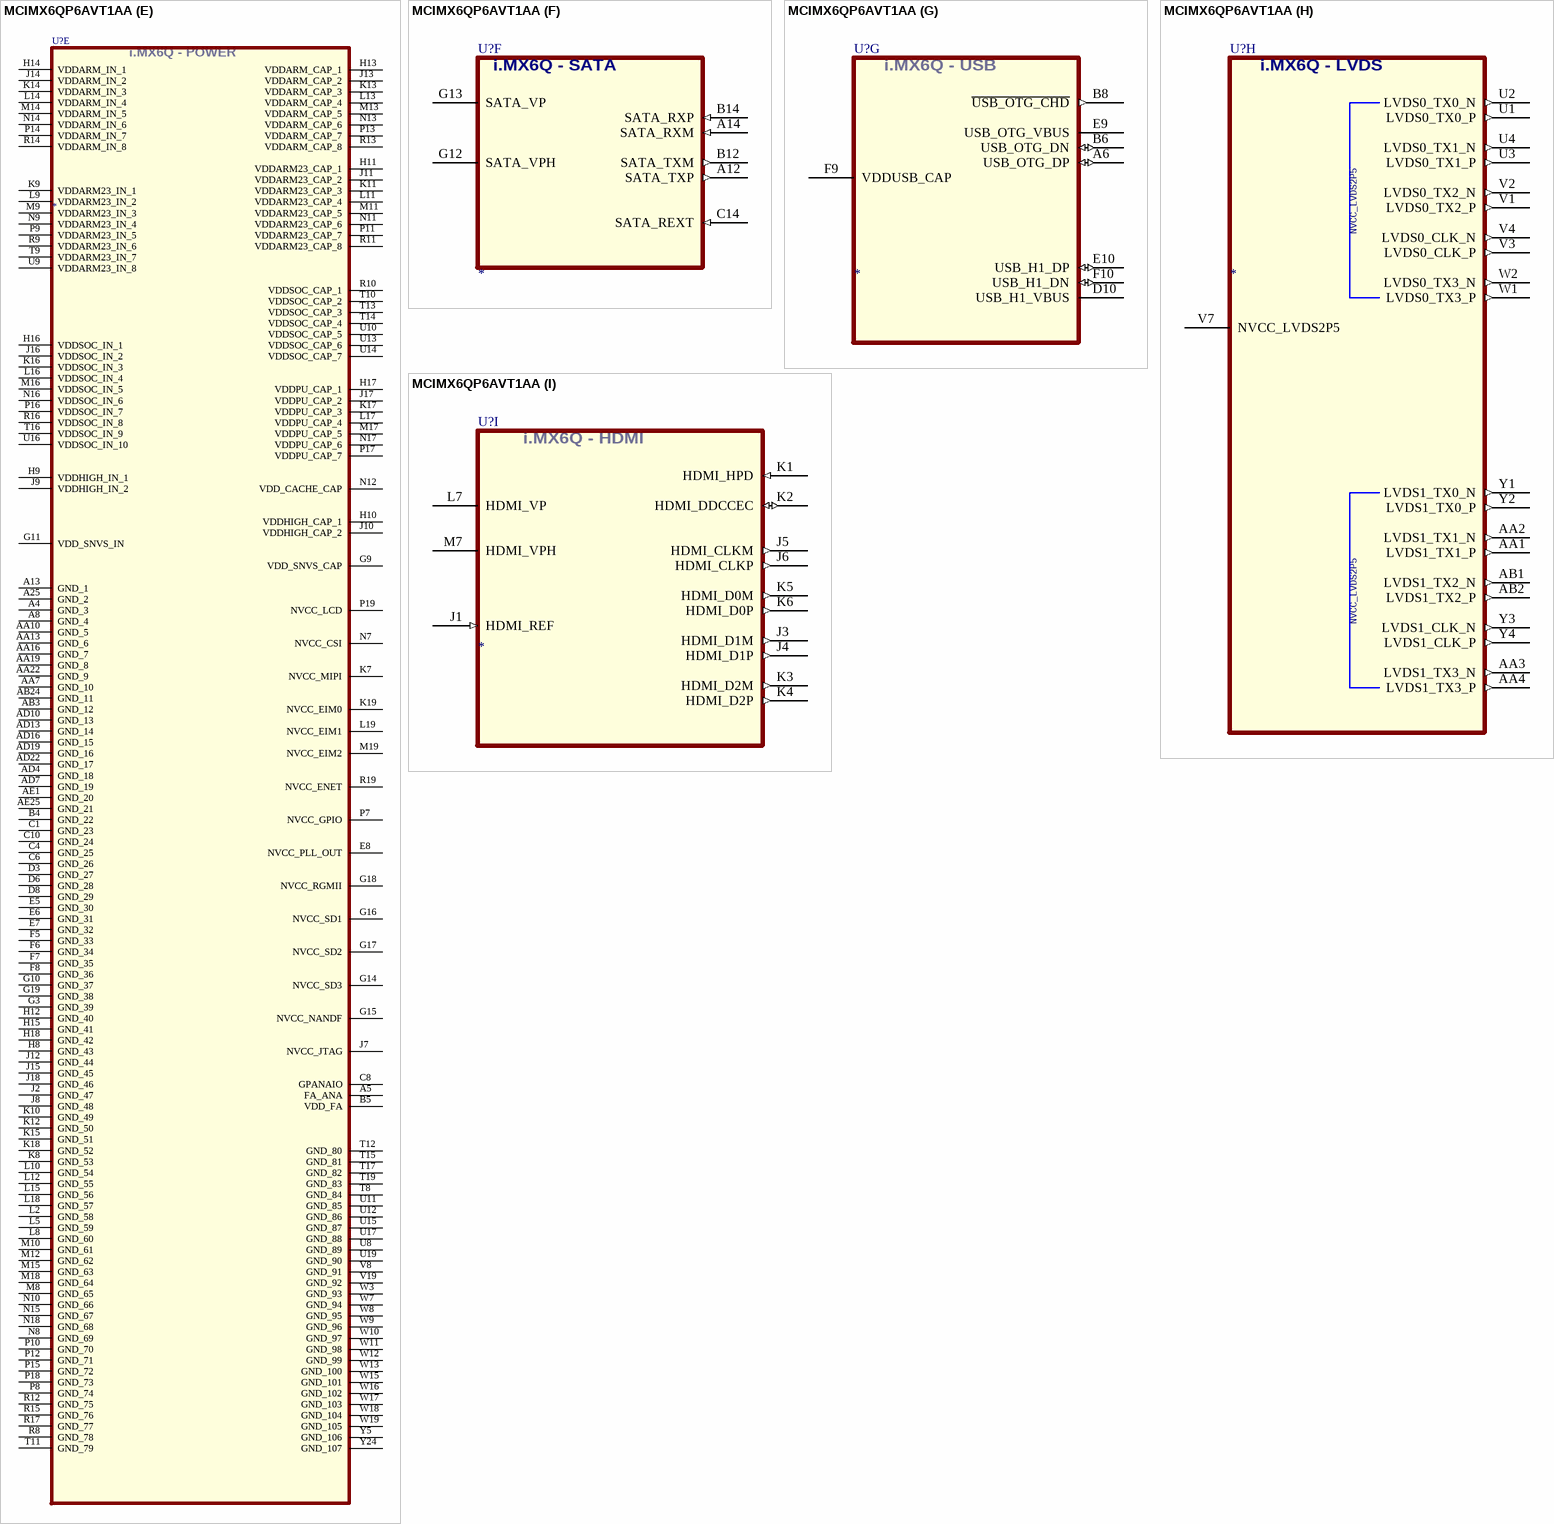
[diagram p4: symbol MCIMX6QP6AVT1AA]

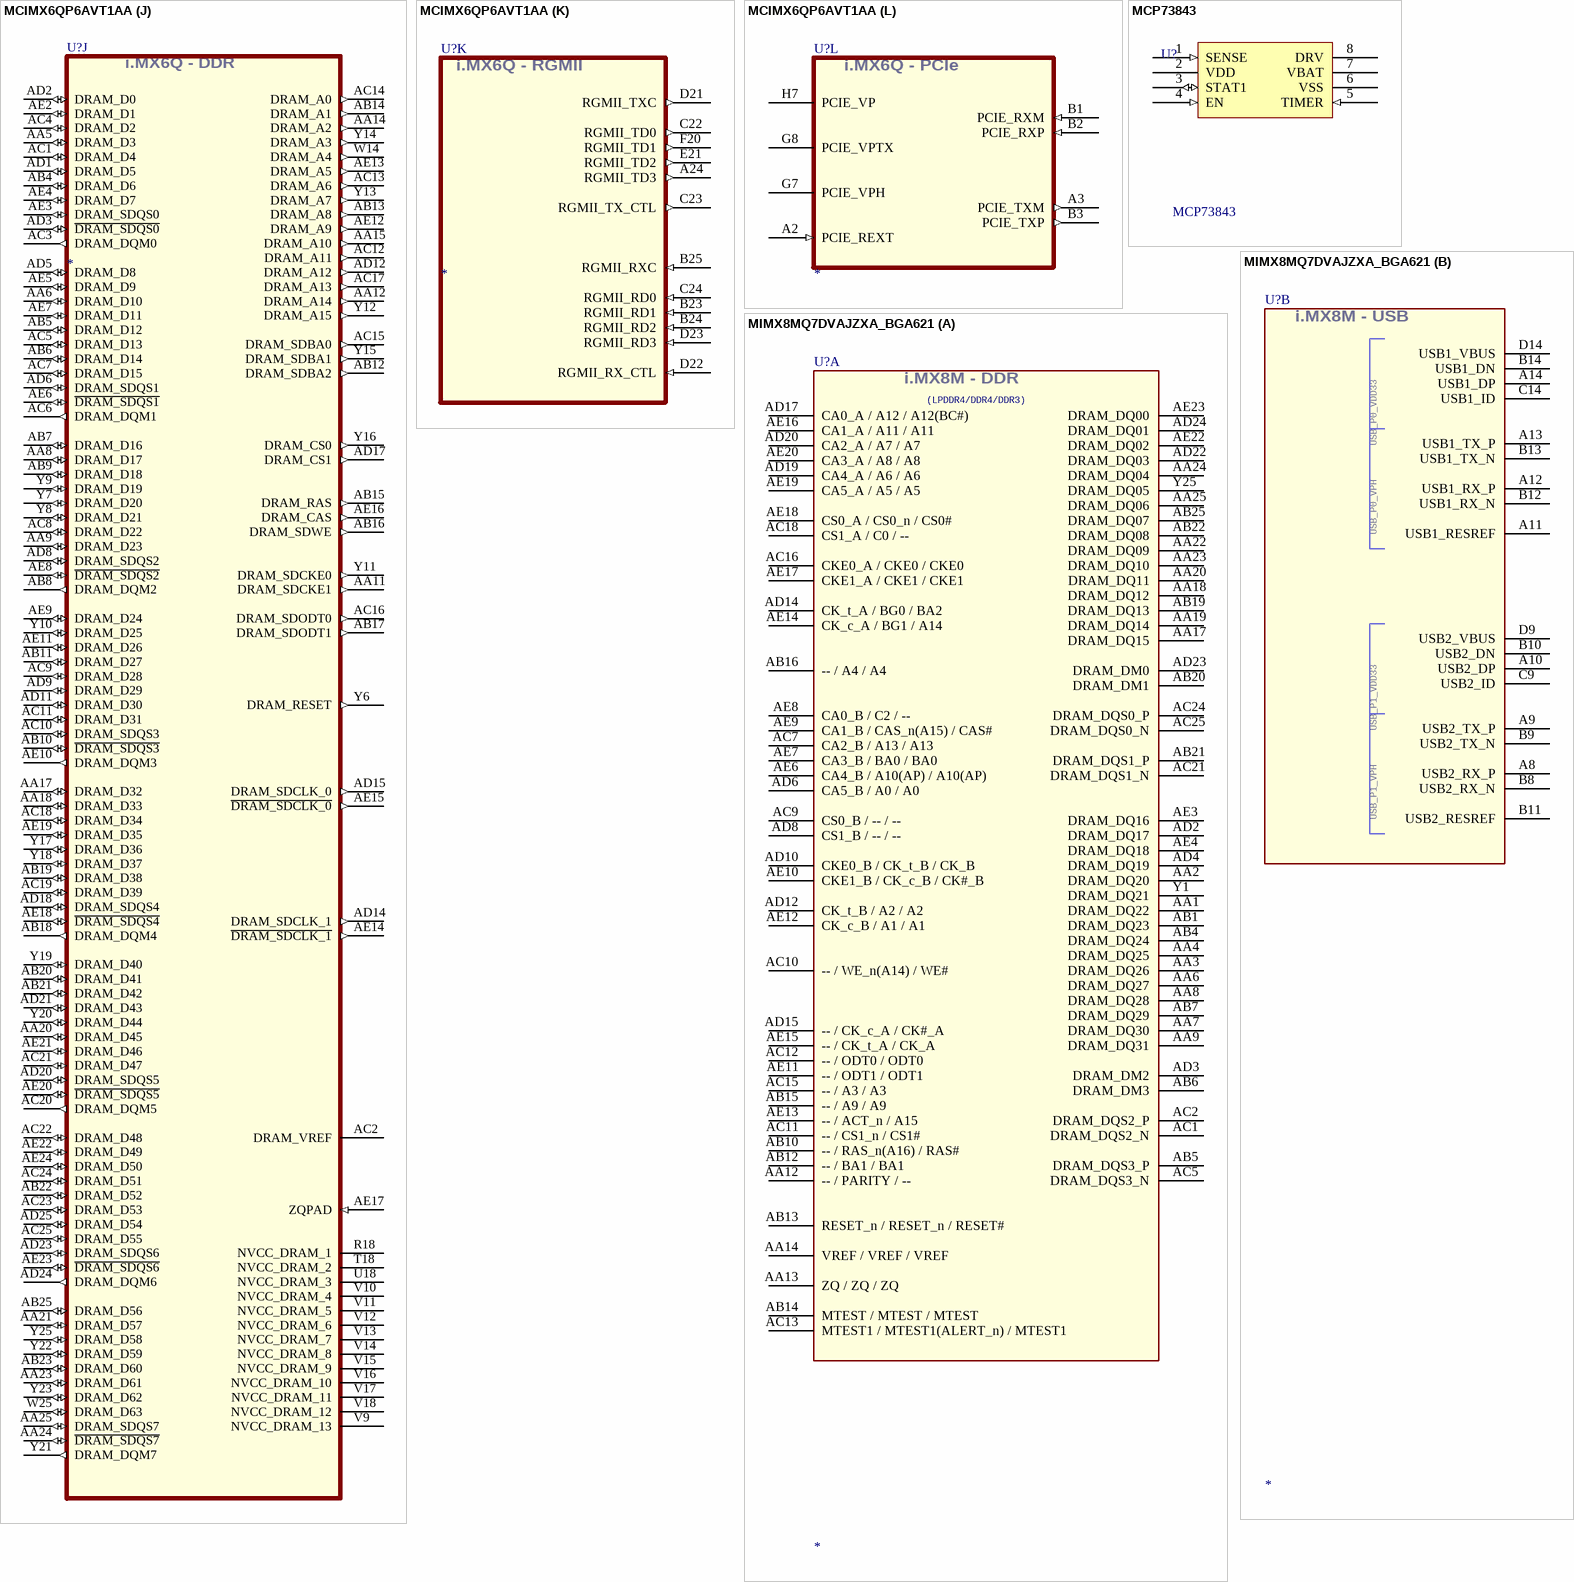
[diagram p5: symbols MCIMX6QP6AVT1AA to MIMX8MQ7DVAJZXA_BGA621]

## MCIMX6QP6AVT1AA
designator U?
CLASS: IC
part A pins: C25 EIM_D16 (io), D24 EIM_D18 (io), D25 EIM_D23 (io), E22 EIM_EB2 (io), E23 EIM_D22 (io), E24 EIM_D26 (io), E25 EIM_D27 (io), F21 EIM_D17 (io), F22 EIM_D24 (io), F23 EIM_EB3 (io), F24 EIM_A22 (io), F25 EIM_A24 (io), G20 EIM_D20 (io), G21 EIM_D19 (io), G22 EIM_D25 (io), G23 EIM_D28 (io), G24 EIM_A17 (io), G25 EIM_A19 (io), H19 EIM_A25 (io), H20 EIM_D21 (io), H21 EIM_D31 (io), H22 EIM_A20 (io), H23 EIM_A21 (io), H24 EIM_CS0 (io), H25 EIM_A16 (io), J19 EIM_D29 (io), J20 EIM_D30 (io), J21 EIM_A23 (io), J22 EIM_A18 (io), J23 EIM_CS1 (io), J24 EIM_OE (io), J25 EIM_DA1 (io), K20 EIM_RW (io), K21 EIM_EB0 (io), K22 EIM_LBA (io), K23 EIM_EB1 (io), K24 EIM_DA3 (io), K25 EIM_DA6 (io), L20 EIM_DA0 (io), L21 EIM_DA2 (io), L22 EIM_DA4 (io), L23 EIM_DA5 (io), L24 EIM_DA8 (io), L25 EIM_DA7 (io), M20 EIM_DA11 (io), M21 EIM_DA9 (io), M22 EIM_DA10 (io), M23 EIM_DA13 (io), M24 EIM_DA12 (io), M25 EIM_WAIT (io), N22 EIM_BCLK (io), N23 EIM_DA14 (io), N24 EIM_DA15 (io)
part B pins: A9 MLB_SN (io), A10 MLB_DP (io), A11 MLB_CN (in), A15 SD3_DAT2 (io), A16 NANDF_ALE (io), A17 NANDF_CS2 (io), A18 NANDF_D0 (io), A19 NANDF_D4 (io), A20 SD4_DAT3 (io), A21 SD1_DAT0 (io), A22 SD2_DAT0 (io), A23 SD2_DAT2 (io), B9 MLB_SP (io), B10 MLB_DN (io), B11 MLB_CP (in), B13 SD3_CMD (io), B15 SD3_DAT3 (io), B16 NANDF_RB0 (io), B17 SD4_CMD (io), B18 NANDF_D5 (io), B19 SD4_DAT1 (io), B20 SD4_DAT6 (io), B21 SD1_CMD (io), B22 SD2_DAT3 (io), C13 SD3_DAT5 (io), C15 NANDF_CLE (io), C16 NANDF_CS1 (io), C17 NANDF_D1 (io), C18 NANDF_D7 (io), C19 SD4_DAT5 (io), C20 SD1_DAT1 (io), C21 SD2_CLK (io), D13 SD3_DAT4 (io), D14 SD3_CLK (io), D15 SD3_RST (io), D16 NANDF_CS3 (io), D17 NANDF_D3 (io), D18 SD4_DAT0 (io), D19 SD4_DAT7 (io), D20 SD1_CLK (io), E13 SD3_DAT6 (io), E14 SD3_DAT0 (io), E15 ~{NANDF_WP} (io), E16 SD4_CLK (io), E17 NANDF_D6 (io), E18 SD4_DAT4 (io), E19 SD1_DAT2 (io), E20 SD2_DAT1 (io), F13 SD3_DAT7 (io), F14 SD3_DAT1 (io), F15 NANDF_CS0 (io), F16 NANDF_D2 (io), F17 SD4_DAT2 (io), F18 SD1_DAT3 (io), F19 SD2_CMD (io), P5 GPIO_19 (io), P6 GPIO_18 (io), R1 GPIO_17 (io), R2 GPIO_16 (io), R3 GPIO_7 (io), R4 GPIO_5 (io), R5 GPIO_8 (io), R6 GPIO_4 (io), R7 GPIO_3 (io), T1 GPIO_2 (io), T2 GPIO_9 (io), T3 GPIO_6 (io), T4 GPIO_1 (io), T5 GPIO_0 (io), T6 KEY_COL4 (io), T7 KEY_ROW3 (io), U5 KEY_COL3 (io), U6 KEY_ROW1 (io), U7 KEY_COL1 (io), U20 ENET_TXD0 (io), U21 ENET_CRS_DV (io), V5 KEY_ROW4 (io), V6 KEY_ROW0 (io), V20 ENET_MDC (io), V21 ENET_TX_EN (io), V22 ENET_REF_CLK (io), V23 ENET_MDIO (io), W4 KEY_ROW2 (io), W5 KEY_COL0 (io), W6 KEY_COL2 (io), W20 ENET_TXD1 (io), W21 ENET_RXD0 (io), W22 ENET_RXD1 (io), W23 ENET_RX_ER (io)
part C pins: A7 XTALI (in), B7 XTALO (out), C2 ~{JTAG_TRST} (in), C3 JTAG_TMS (in), C5 CLK2_N (io), C7 CLK1_N (io), C9 RTC_XTALO (out), C11 ~{POR} (in), C12 BOOT_MODE0 (in), D5 CLK2_P (io), D7 CLK1_P (io), D9 RTC_XTALI (in), D11 PMIC_ON_REQ (out), D12 ONOFF (in), E11 TAMPER (in), E12 TEST_MODE (in), F11 PMIC_STBY_REQ (out), F12 BOOT_MODE1 (in), G5 JTAG_TDI (in), G6 JTAG_TDO (out), H5 JTAG_TCK (in), H6 JTAG_MOD (in)
part D pins: D1 CSI_D1M (in), D2 CSI_D1P (in), D4 CSI_REXT (in), E1 CSI_D2M (in), E2 CSI_D2P (in), E3 CSI_D0P (in), E4 CSI_D0M (in), F1 CSI_D3P (in), F2 CSI_D3M (in), F3 CSI_CLK0P (in), F4 CSI_CLK0M (in), G1 DSI_D0P (out), G2 DSI_D0M (out), G4 DSI_REXT (in), H1 DSI_D1P (out), H2 DSI_D1M (out), H3 DSI_CLK0M (out), H4 DSI_CLK0P (out), L1 CSI0_DAT13 (io), L3 CSI0_DAT17 (io), L4 CSI0_DAT16 (io), L6 CSI0_DAT19 (io), M1 CSI0_DAT10 (io), M2 CSI0_DAT12 (io), M3 CSI0_DAT11 (io), M4 CSI0_DAT14 (io), M5 CSI0_DAT15 (io), M6 CSI0_DAT18 (io), N1 CSI0_DAT4 (io), N2 CSI0_VSYNC (io), N3 CSI0_DAT7 (io), N4 CSI0_DAT6 (io), N5 CSI0_DAT9 (io), N6 CSI0_DAT8 (io), N19 DI0_DISP_CLK (io), N20 DI0_PIN3 (io), N21 DI0_PIN15 (io), N25 DI0_PIN2 (io), P1 CSI0_PIXCLK (io), P2 CSI0_DAT5 (io), P3 CSI0_DATA_EN (io), P4 CSI0_MCLK (io), P20 DISP0_DAT4 (io), P21 DISP0_DAT3 (io), P22 DISP0_DAT1 (io), P23 DISP0_DAT2 (io), P24 DISP0_DAT0 (io), P25 DI0_PIN4 (io), R20 DISP0_DAT13 (io), R21 DISP0_DAT10 (io), R22 DISP0_DAT8 (io), R23 DISP0_DAT6 (io), R24 DISP0_DAT7 (io), R25 DISP0_DAT5 (io), T20 DISP0_DAT21 (io), T21 DISP0_DAT16 (io), T22 DISP0_DAT15 (io), T23 DISP0_DAT11 (io), T24 DISP0_DAT12 (io), T25 DISP0_DAT9 (io), U22 DISP0_DAT20 (io), U23 DISP0_DAT19 (io), U24 DISP0_DAT17 (io), U25 DISP0_DAT14 (io), V24 DISP0_DAT22 (io), V25 DISP0_DAT18 (io), W24 DISP0_DAT23 (io)
part E pins: A4 GND_3 (power), A5 FA_ANA (power), A8 GND_4 (power), A13 GND_1 (power), A25 GND_2 (power), AA7 GND_10 (power), AA10 GND_5 (power), AA13 GND_6 (power), AA16 GND_7 (power), AA19 GND_8 (power), AA22 GND_9 (power), AB3 GND_12 (power), AB24 GND_11 (power), AD4 GND_18 (power), AD7 GND_19 (power), AD10 GND_13 (power), AD13 GND_14 (power), AD16 GND_15 (power), AD19 GND_16 (power), AD22 GND_17 (power), AE1 GND_20 (power), AE25 GND_21 (power), B4 GND_22 (power), B5 VDD_FA (power), C1 GND_23 (power), C4 GND_25 (power), C6 GND_26 (power), C8 GPANAIO (power), C10 GND_24 (power), D3 GND_27 (power), D6 GND_28 (power), D8 GND_29 (power), E5 GND_30 (power), E6 GND_31 (power), E7 GND_32 (power), E8 NVCC_PLL_OUT (power), F5 GND_33 (power), F6 GND_34 (power), F7 GND_35 (power), F8 GND_36 (power), G3 GND_39 (power), G9 VDD_SNVS_CAP (power), G10 GND_37 (power), G11 VDD_SNVS_IN (power), G14 NVCC_SD3 (power), G15 NVCC_NANDF (power), G16 NVCC_SD1 (power), G17 NVCC_SD2 (power), G18 NVCC_RGMII (power), G19 GND_38 (power), H8 GND_43 (power), H9 VDDHIGH_IN_1 (power), H10 VDDHIGH_CAP_1 (power), H11 VDDARM23_CAP_1 (power), H12 GND_40 (power), H13 VDDARM_CAP_1 (power), H14 VDDARM_IN_1 (power), H15 GND_41 (power), H16 VDDSOC_IN_1 (power), H17 VDDPU_CAP_1 (power), H18 GND_42 (power), J2 GND_47 (power), J7 NVCC_JTAG (power), J8 GND_48 (power), J9 VDDHIGH_IN_2 (power), J10 VDDHIGH_CAP_2 (power), J11 VDDARM23_CAP_2 (power), J12 GND_44 (power), J13 VDDARM_CAP_2 (power), J14 VDDARM_IN_2 (power), J15 GND_45 (power), J16 VDDSOC_IN_2 (power), J17 VDDPU_CAP_2 (power), J18 GND_46 (power), K7 NVCC_MIPI (power), K8 GND_53 (power), K9 VDDARM23_IN_1 (power), K10 GND_49 (power), K11 VDDARM23_CAP_3 (power), K12 GND_50 (power), K13 VDDARM_CAP_3 (power), K14 VDDARM_IN_3 (power), K15 GND_51 (power), K16 VDDSOC_IN_3 (power), K17 VDDPU_CAP_3 (power), K18 GND_52 (power), K19 NVCC_EIM0 (power), L2 GND_58 (power), L5 GND_59 (power), L8 GND_60 (power), L9 VDDARM23_IN_2 (power), L10 GND_54 (power), L11 VDDARM23_CAP_4 (power), L12 GND_55 (power), L13 VDDARM_CAP_4 (power), L14 VDDARM_IN_4 (power), L15 GND_56 (power), L16 VDDSOC_IN_4 (power), L17 VDDPU_CAP_4 (power), L18 GND_57 (power), L19 NVCC_EIM1 (power), M8 GND_65 (power), M9 VDDARM23_IN_3 (power), M10 GND_61 (power), M11 VDDARM23_CAP_5 (power), M12 GND_62 (power), M13 VDDARM_CAP_5 (power), M14 VDDARM_IN_5 (power), M15 GND_63 (power), M16 VDDSOC_IN_5 (power), M17 VDDPU_CAP_5 (power), M18 GND_64 (power), M19 NVCC_EIM2 (power), N7 NVCC_CSI (power), N8 GND_69 (power), N9 VDDARM23_IN_4 (power), N10 GND_66 (power), N11 VDDARM23_CAP_6 (power), N12 VDD_CACHE_CAP (power), N13 VDDARM_CAP_6 (power), N14 VDDARM_IN_6 (power), N15 GND_67 (power), N16 VDDSOC_IN_6 (power), N17 VDDPU_CAP_6 (power), N18 GND_68 (power), P7 NVCC_GPIO (power), P8 GND_74 (power), P9 VDDARM23_IN_5 (power), P10 GND_70 (power), P11 VDDARM23_CAP_7 (power), P12 GND_71 (power), P13 VDDARM_CAP_7 (power), P14 VDDARM_IN_7 (power), P15 GND_72 (power), P16 VDDSOC_IN_7 (power), P17 VDDPU_CAP_7 (power), P18 GND_73 (power), P19 NVCC_LCD (power), R8 GND_78 (power), R9 VDDARM23_IN_6 (power), R10 VDDSOC_CAP_1 (power), R11 VDDARM23_CAP_8 (power), R12 GND_75 (power), R13 VDDARM_CAP_8 (power), R14 VDDARM_IN_8 (power), R15 GND_76 (power), R16 VDDSOC_IN_8 (power), R17 GND_77 (power), R19 NVCC_ENET (power), T8 GND_84 (power), T9 VDDARM23_IN_7 (power), T10 VDDSOC_CAP_2 (power), T11 GND_79 (power), T12 GND_80 (power), T13 VDDSOC_CAP_3 (power), T14 VDDSOC_CAP_4 (power), T15 GND_81 (power), T16 VDDSOC_IN_9 (power), T17 GND_82 (power), T19 GND_83 (power), U8 GND_89 (power), U9 VDDARM23_IN_8 (power), U10 VDDSOC_CAP_5 (power), U11 GND_85 (power), U12 GND_86 (power), U13 VDDSOC_CAP_6 (power), U14 VDDSOC_CAP_7 (power), U15 GND_87 (power), U16 VDDSOC_IN_10 (power), U17 GND_88 (power), U19 GND_90 (power), V8 GND_91 (power), V19 GND_92 (power), W3 GND_93 (power), W7 GND_94 (power), W8 GND_95 (power), W9 GND_96 (power), W10 GND_97 (power), W11 GND_98 (power), W12 GND_99 (power), W13 GND_100 (power), W15 GND_101 (power), W16 GND_102 (power), W17 GND_103 (power), W18 GND_104 (power), W19 GND_105 (power), Y5 GND_106 (power), Y24 GND_107 (power)
part F pins: A12 SATA_TXP (out), A14 SATA_RXM (in), B12 SATA_TXM (out), B14 SATA_RXP (in), C14 SATA_REXT (in), G12 SATA_VPH (power), G13 SATA_VP (power)
part G pins: A6 USB_OTG_DP (io), B6 USB_OTG_DN (io), B8 ~{USB_OTG_CHD} (out), D10 USB_H1_VBUS (power), E9 USB_OTG_VBUS (power), E10 USB_H1_DP (io), F9 VDDUSB_CAP (power), F10 USB_H1_DN (io)
part H pins: AA1 LVDS1_TX1_P (out), AA2 LVDS1_TX1_N (out), AA3 LVDS1_TX3_N (out), AA4 LVDS1_TX3_P (out), AB1 LVDS1_TX2_N (out), AB2 LVDS1_TX2_P (out), U1 LVDS0_TX0_P (out), U2 LVDS0_TX0_N (out), U3 LVDS0_TX1_P (out), U4 LVDS0_TX1_N (out), V1 LVDS0_TX2_P (out), V2 LVDS0_TX2_N (out), V3 LVDS0_CLK_P (out), V4 LVDS0_CLK_N (out), V7 NVCC_LVDS2P5 (power), W1 LVDS0_TX3_P (out), W2 LVDS0_TX3_N (out), Y1 LVDS1_TX0_N (out), Y2 LVDS1_TX0_P (out), Y3 LVDS1_CLK_N (out), Y4 LVDS1_CLK_P (out)
part I pins: J1 HDMI_REF (in), J3 HDMI_D1M (out), J4 HDMI_D1P (out), J5 HDMI_CLKM (out), J6 HDMI_CLKP (out), K1 HDMI_HPD (in), K2 HDMI_DDCCEC (io), K3 HDMI_D2M (out), K4 HDMI_D2P (out), K5 HDMI_D0M (out), K6 HDMI_D0P (out), L7 HDMI_VP (power), M7 HDMI_VPH (power)
part J pins: AA5 DRAM_D3 (io), AA6 DRAM_D10 (io), AA8 DRAM_D17 (io), AA9 DRAM_D23 (io), AA11 DRAM_SDCKE1 (out), AA12 DRAM_A14 (out), AA14 DRAM_A2 (out), AA15 DRAM_A10 (out), AA17 DRAM_D32 (io), AA18 DRAM_D33 (io), AA20 DRAM_D45 (io), AA21 DRAM_D57 (io), AA23 DRAM_D61 (io), AA24 ~{DRAM_SDQS7} (io), AA25 DRAM_SDQS7 (io), AB4 DRAM_D6 (io), AB5 DRAM_D12 (io), AB6 DRAM_D14 (io), AB7 DRAM_D16 (io), AB8 DRAM_DQM2 (out), AB9 DRAM_D18 (io), AB10 ~{DRAM_SDQS3} (io), AB11 DRAM_D27 (io), AB12 DRAM_SDBA2 (out), AB13 DRAM_A8 (out), AB14 DRAM_A1 (out), AB15 DRAM_RAS (out), AB16 DRAM_SDWE (out), AB17 DRAM_SDODT1 (out), AB18 DRAM_DQM4 (out), AB19 DRAM_D38 (io), AB20 DRAM_D41 (io), AB21 DRAM_D42 (io), AB22 DRAM_D52 (io), AB23 DRAM_D60 (io), AB25 DRAM_D56 (io), AC1 DRAM_D4 (io), AC2 DRAM_VREF (power), AC3 DRAM_DQM0 (out), AC4 DRAM_D2 (io), AC5 DRAM_D13 (io), AC6 DRAM_DQM1 (out), AC7 DRAM_D15 (io), AC8 DRAM_D22 (io), AC9 DRAM_D28 (io), AC10 DRAM_SDQS3 (io), AC11 DRAM_D31 (io), AC12 DRAM_A11 (out), AC13 DRAM_A6 (out), AC14 DRAM_A0 (out), AC15 DRAM_SDBA0 (out), AC16 DRAM_SDODT0 (out), AC17 DRAM_A13 (out), AC18 DRAM_D34 (io), AC19 DRAM_D39 (io), AC20 DRAM_DQM5 (out), AC21 DRAM_D47 (io), AC22 DRAM_D48 (io), AC23 DRAM_D53 (io), AC24 DRAM_D51 (io), AC25 DRAM_D55 (io), AD1 DRAM_D5 (io), AD2 DRAM_D0 (io), AD3 ~{DRAM_SDQS0} (io), AD5 DRAM_D8 (io), AD6 DRAM_SDQS1 (io), AD8 DRAM_SDQS2 (io), AD9 DRAM_D29 (io), AD11 DRAM_D30 (io), AD12 DRAM_A12 (out), AD14 DRAM_SDCLK_1 (out), AD15 DRAM_SDCLK_0 (out), AD17 DRAM_CS1 (out), AD18 DRAM_SDQS4 (io), AD20 DRAM_SDQS5 (io), AD21 DRAM_D43 (io), AD23 DRAM_SDQS6 (io), AD24 DRAM_DQM6 (out), AD25 DRAM_D54 (io), AE2 DRAM_D1 (io), AE3 DRAM_SDQS0 (io), AE4 DRAM_D7 (io), AE5 DRAM_D9 (io), AE6 ~{DRAM_SDQS1} (io), AE7 DRAM_D11 (io), AE8 ~{DRAM_SDQS2} (io), AE9 DRAM_D24 (io), AE10 DRAM_DQM3 (out), AE11 DRAM_D26 (io), AE12 DRAM_A9 (out), AE13 DRAM_A5 (out), AE14 ~{DRAM_SDCLK_1} (out), AE15 ~{DRAM_SDCLK_0} (out), AE16 DRAM_CAS (out), AE17 ZQPAD (in), AE18 ~{DRAM_SDQS4} (io), AE19 DRAM_D35 (io), AE20 ~{DRAM_SDQS5} (io), AE21 DRAM_D46 (io), AE22 DRAM_D49 (io), AE23 ~{DRAM_SDQS6} (io), AE24 DRAM_D50 (io), R18 NVCC_DRAM_1 (power), T18 NVCC_DRAM_2 (power), U18 NVCC_DRAM_3 (power), V9 NVCC_DRAM_13 (power), V10 NVCC_DRAM_4 (power), V11 NVCC_DRAM_5 (power), V12 NVCC_DRAM_6 (power), V13 NVCC_DRAM_7 (power), V14 NVCC_DRAM_8 (power), V15 NVCC_DRAM_9 (power), V16 NVCC_DRAM_10 (power), V17 NVCC_DRAM_11 (power), V18 NVCC_DRAM_12 (power), W14 DRAM_A4 (out), W25 DRAM_D63 (io), Y6 DRAM_RESET (out), Y7 DRAM_D20 (io), Y8 DRAM_D21 (io), Y9 DRAM_D19 (io), Y10 DRAM_D25 (io), Y11 DRAM_SDCKE0 (out), Y12 DRAM_A15 (out), Y13 DRAM_A7 (out), Y14 DRAM_A3 (out), Y15 DRAM_SDBA1 (out), Y16 DRAM_CS0 (out), Y17 DRAM_D36 (io), Y18 DRAM_D37 (io), Y19 DRAM_D40 (io), Y20 DRAM_D44 (io), Y21 DRAM_DQM7 (out), Y22 DRAM_D59 (io), Y23 DRAM_D62 (io), Y25 DRAM_D58 (io)
part K pins: A24 RGMII_TD3 (out), B23 RGMII_RD1 (in), B24 RGMII_RD2 (in), B25 RGMII_RXC (in), C22 RGMII_TD0 (out), C23 RGMII_TX_CTL (out), C24 RGMII_RD0 (in), D21 RGMII_TXC (out), D22 RGMII_RX_CTL (in), D23 RGMII_RD3 (in), E21 RGMII_TD2 (out), F20 RGMII_TD1 (out)
part L pins: A2 PCIE_REXT (in), A3 PCIE_TXM (out), B1 PCIE_RXM (in), B2 PCIE_RXP (in), B3 PCIE_TXP (out), G7 PCIE_VPH (power), G8 PCIE_VPTX (power), H7 PCIE_VP (power)
part A text: i.MX6Q - EIM
part B text: i.MX6Q
part C text: i.MX6Q - CONTROL
part D text: i.MX6Q - DISP; CSI
part E text: i.MX6Q - POWER
part F text: i.MX6Q - SATA
part G text: i.MX6Q - USB
part H text: i.MX6Q - LVDS
part I text: i.MX6Q - HDMI
part J text: i.MX6Q - DDR
part K text: i.MX6Q - RGMII
part L text: i.MX6Q - PCIe

## MCP73843
designator U?
MCP73843 Single Li-ion cell charger IC; MF: Microchip; Availability: Unavailable; MP: MCP73843; Price: None; Package: SOIC-8 ON Semiconductor; Value: *; PriceKosmodromUAH: 64,25; Kosmodrom: http://www.kosmodrom.com.ua/el.php?name=MCP73843-420IMS
footprint MSOP-8-SOP65P490X110-8N
pins: 1 SENSE (in), 2 VDD (power), 3 STAT1 (io), 4 EN (in), 5 TIMER (in), 6 VSS (power), 7 VBAT (power), 8 DRV (power)

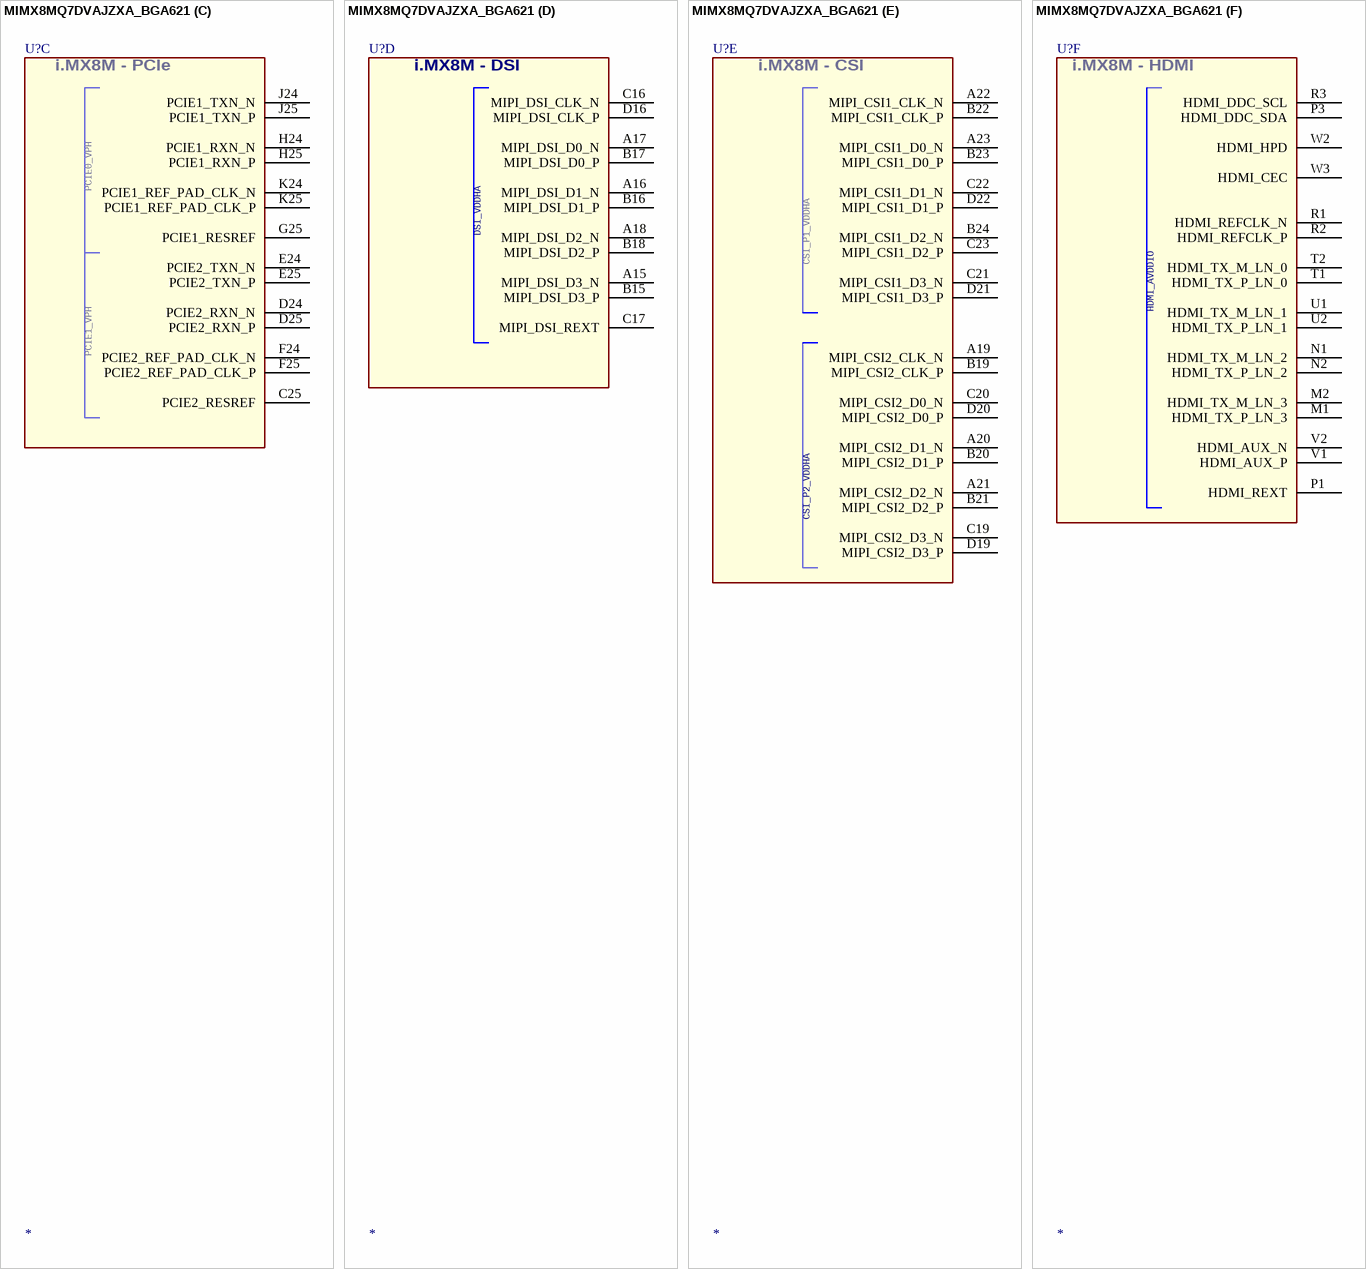
[diagram p6: symbol MIMX8MQ7DVAJZXA_BGA621]

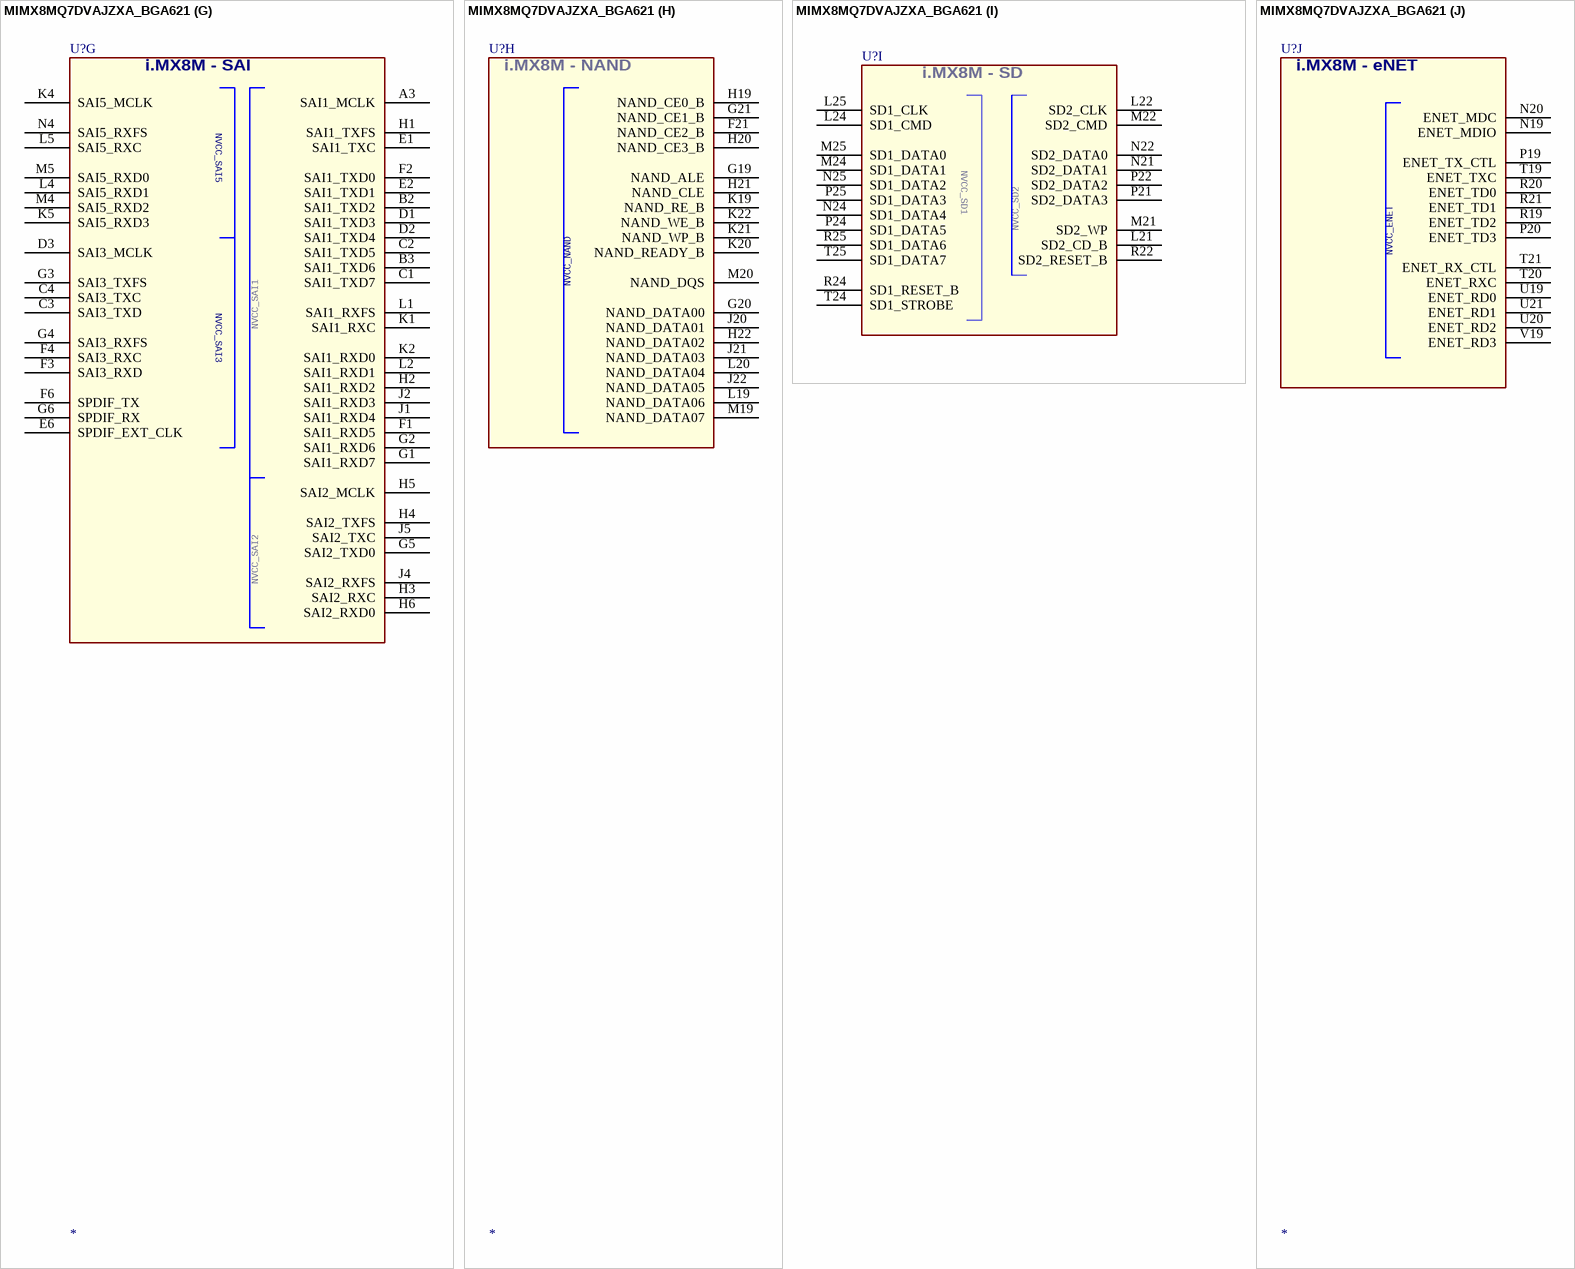
[diagram p7: symbol MIMX8MQ7DVAJZXA_BGA621]

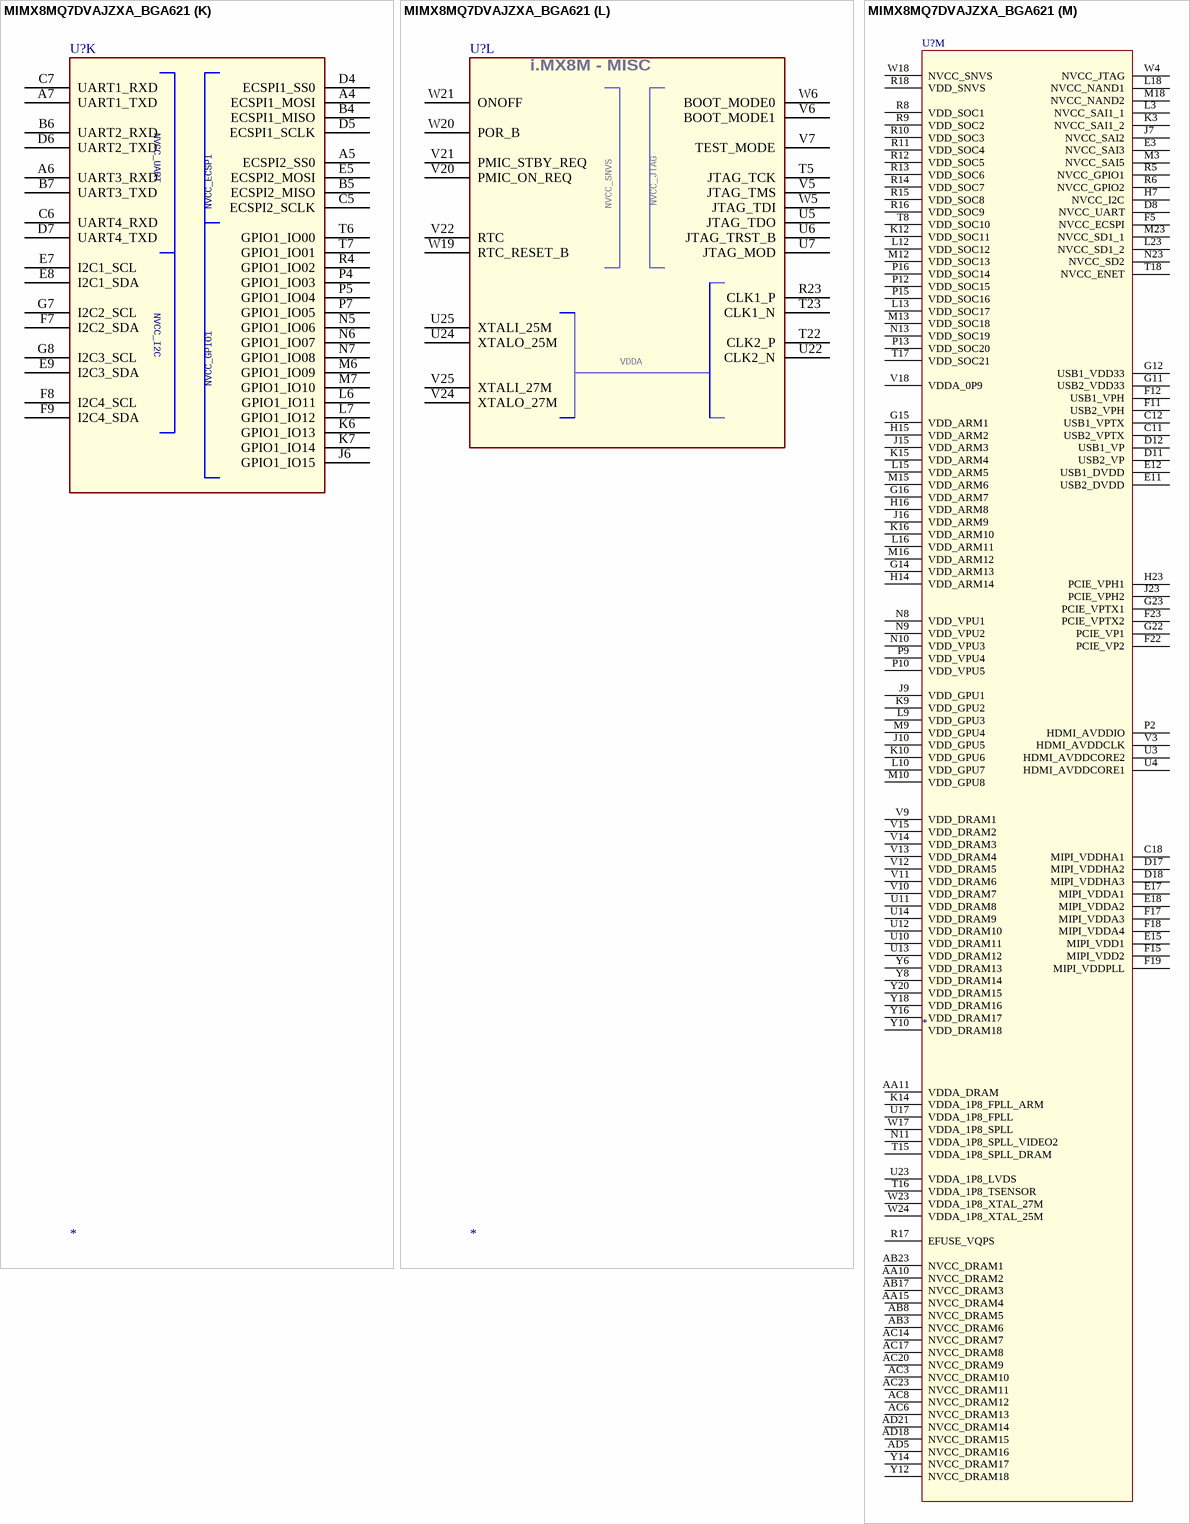
[diagram p8: symbol MIMX8MQ7DVAJZXA_BGA621]

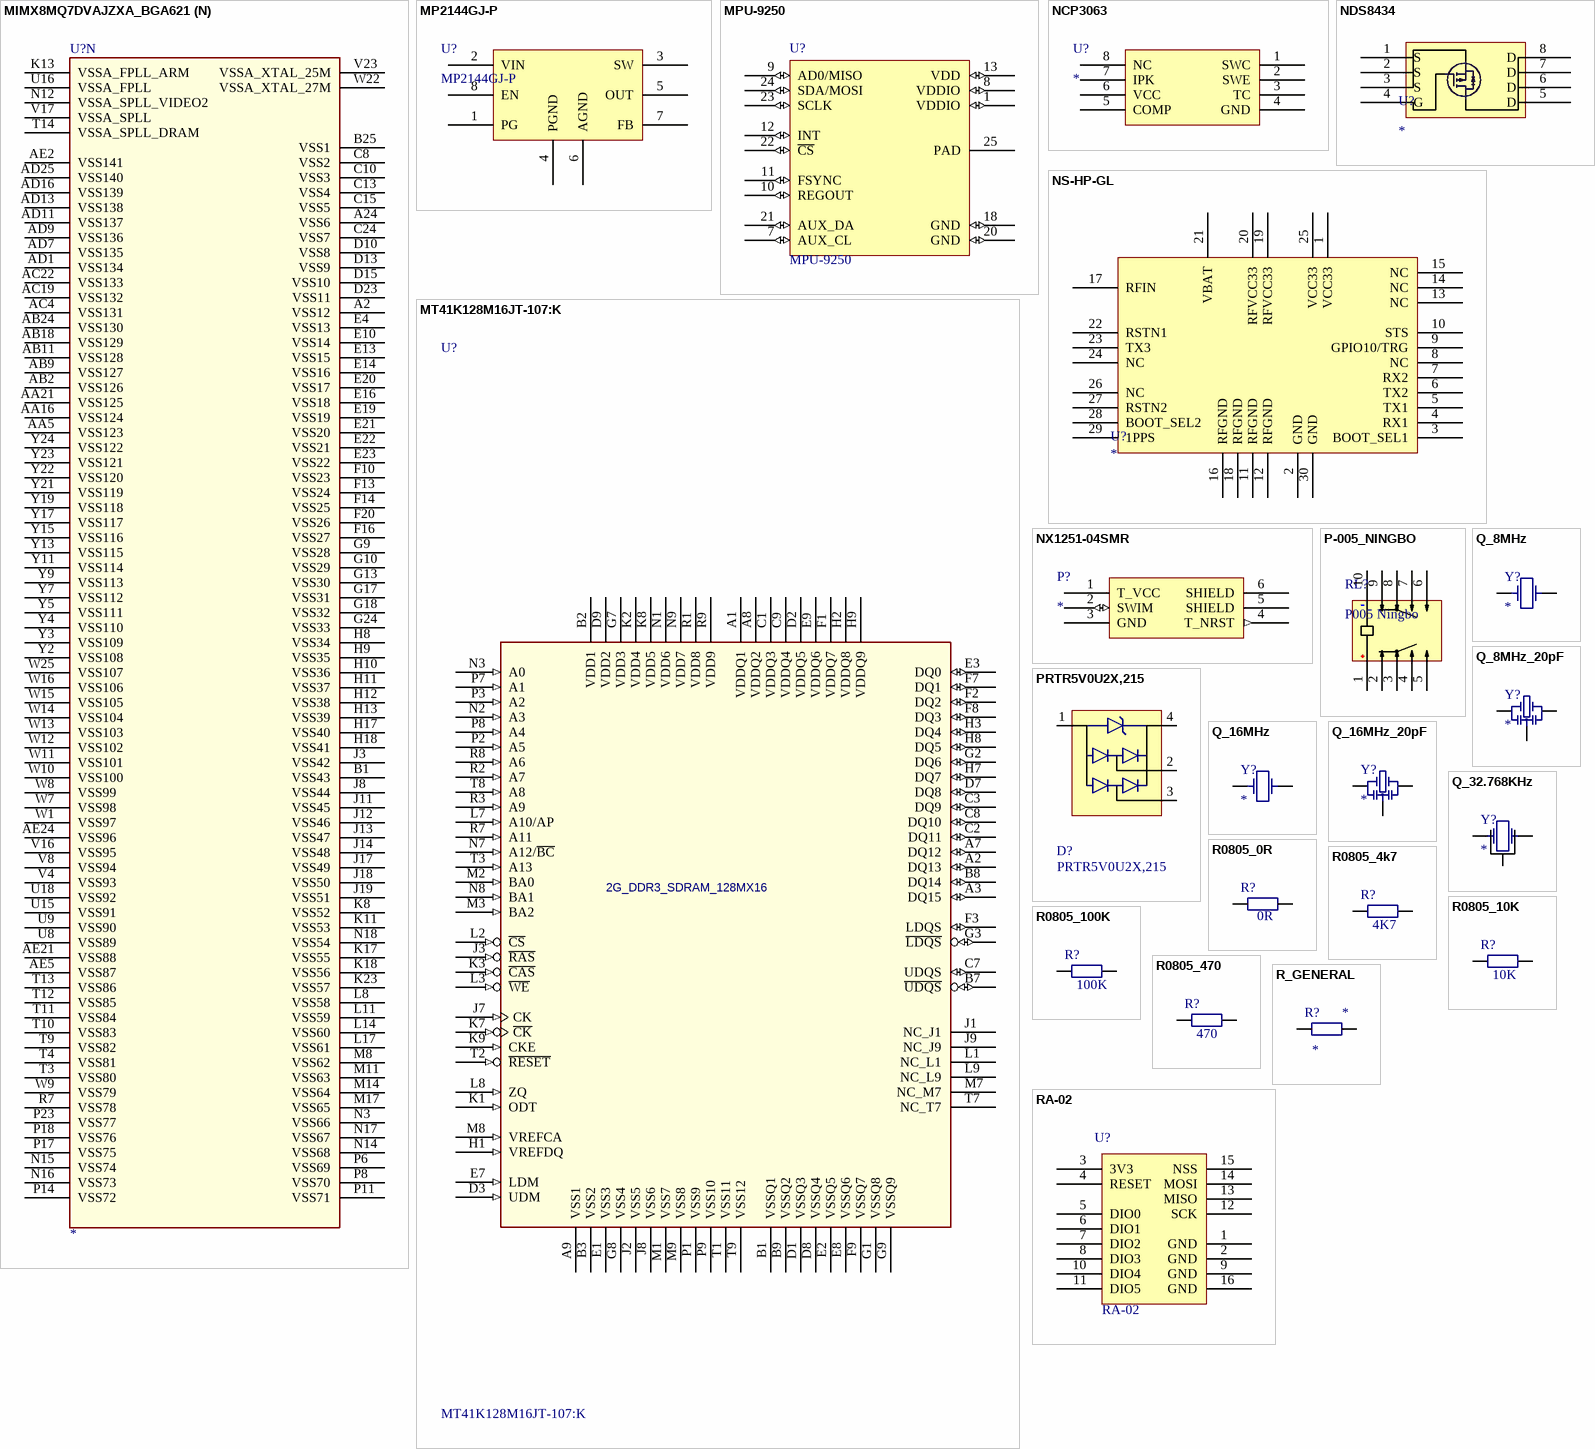
[diagram p9: symbols MIMX8MQ7DVAJZXA_BGA621 to RA-02]

## MIMX8MQ7DVAJZXA_BGA621
designator U?
CLASS: IC; SPLIT_INST: TRUE; SWAP_INFO: (S1+S2+S3+S4+S5+S6+S7+S8+S9+S10+S11+S12+S13)
footprint bga621_heatsink
part A pins: AA1 DRAM_DQ22, AA2 DRAM_DQ20, AA3 DRAM_DQ26, AA4 DRAM_DQ25, AA6 DRAM_DQ27, AA7 DRAM_DQ30, AA8 DRAM_DQ28, AA9 DRAM_DQ31, AA12 -- / PARITY / --, AA13 ZQ / ZQ / ZQ, AA14 VREF / VREF / VREF, AA17 DRAM_DQ15, AA18 DRAM_DQ12, AA19 DRAM_DQ14, AA20 DRAM_DQ11, AA22 DRAM_DQ09, AA23 DRAM_DQ10, AA24 DRAM_DQ04, AA25 DRAM_DQ06, AB1 DRAM_DQ23, AB4 DRAM_DQ24, AB5 DRAM_DQS3_P, AB6 DRAM_DM3, AB7 DRAM_DQ29, AB10 -- / RAS_n(A16) / RAS#, AB12 -- / BA1 / BA1, AB13 RESET_n / RESET_n / RESET#, AB14 MTEST / MTEST / MTEST, AB15 -- / A9 / A9, AB16 -- / A4 / A4, AB19 DRAM_DQ13, AB20 DRAM_DM1, AB21 DRAM_DQS1_P, AB22 DRAM_DQ08, AB25 DRAM_DQ07, AC1 DRAM_DQS2_N, AC2 DRAM_DQS2_P, AC5 DRAM_DQS3_N, AC7 CA2_B / A13 / A13, AC9 CS0_B / -- / --, AC10 -- / WE_n(A14) / WE#, AC11 -- / CS1_n / CS1#, AC12 -- / ODT0 / ODT0, AC13 MTEST1 / MTEST1(ALERT_n) / MTEST1, AC15 -- / A3 / A3, AC16 CKE0_A / CKE0 / CKE0, AC18 CS1_A / C0 / --, AC21 DRAM_DQS1_N, AC24 DRAM_DQS0_P, AC25 DRAM_DQS0_N, AD2 DRAM_DQ17, AD3 DRAM_DM2, AD4 DRAM_DQ19, AD6 CA5_B / A0 / A0, AD8 CS1_B / -- / --, AD10 CKE0_B / CK_t_B / CK_B, AD12 CK_t_B / A2 / A2, AD14 CK_t_A / BG0 / BA2, AD15 -- / CK_c_A / CK#_A, AD17 CA0_A / A12 / A12(BC#), AD19 CA4_A / A6 / A6, AD20 CA2_A / A7 / A7, AD22 DRAM_DQ03, AD23 DRAM_DM0, AD24 DRAM_DQ01, AE3 DRAM_DQ16, AE4 DRAM_DQ18, AE6 CA4_B / A10(AP) / A10(AP), AE7 CA3_B / BA0 / BA0, AE8 CA0_B / C2 / --, AE9 CA1_B / CAS_n(A15) / CAS#, AE10 CKE1_B / CK_c_B / CK#_B, AE11 -- / ODT1 / ODT1, AE12 CK_c_B / A1 / A1, AE13 -- / ACT_n / A15, AE14 CK_c_A / BG1 / A14, AE15 -- / CK_t_A / CK_A, AE16 CA1_A / A11 / A11, AE17 CKE1_A / CKE1 / CKE1, AE18 CS0_A / CS0_n / CS0#, AE19 CA5_A / A5 / A5, AE20 CA3_A / A8 / A8, AE22 DRAM_DQ02, AE23 DRAM_DQ00, Y1 DRAM_DQ21, Y25 DRAM_DQ05
part B pins: A8 USB2_RX_P, A9 USB2_TX_P, A10 USB2_DP, A11 USB1_RESREF, A12 USB1_RX_P, A13 USB1_TX_P, A14 USB1_DP, B8 USB2_RX_N, B9 USB2_TX_N, B10 USB2_DN, B11 USB2_RESREF, B12 USB1_RX_N, B13 USB1_TX_N, B14 USB1_DN, C9 USB2_ID, C14 USB1_ID, D9 USB2_VBUS, D14 USB1_VBUS
part C pins: C25 PCIE2_RESREF, D24 PCIE2_RXN_N, D25 PCIE2_RXN_P, E24 PCIE2_TXN_N, E25 PCIE2_TXN_P, F24 PCIE2_REF_PAD_CLK_N, F25 PCIE2_REF_PAD_CLK_P, G25 PCIE1_RESREF, H24 PCIE1_RXN_N, H25 PCIE1_RXN_P, J24 PCIE1_TXN_N, J25 PCIE1_TXN_P, K24 PCIE1_REF_PAD_CLK_N, K25 PCIE1_REF_PAD_CLK_P
part D pins: A15 MIPI_DSI_D3_N, A16 MIPI_DSI_D1_N, A17 MIPI_DSI_D0_N, A18 MIPI_DSI_D2_N, B15 MIPI_DSI_D3_P, B16 MIPI_DSI_D1_P, B17 MIPI_DSI_D0_P, B18 MIPI_DSI_D2_P, C16 MIPI_DSI_CLK_N, C17 MIPI_DSI_REXT, D16 MIPI_DSI_CLK_P
part E pins: A19 MIPI_CSI2_CLK_N, A20 MIPI_CSI2_D1_N, A21 MIPI_CSI2_D2_N, A22 MIPI_CSI1_CLK_N, A23 MIPI_CSI1_D0_N, B19 MIPI_CSI2_CLK_P, B20 MIPI_CSI2_D1_P, B21 MIPI_CSI2_D2_P, B22 MIPI_CSI1_CLK_P, B23 MIPI_CSI1_D0_P, B24 MIPI_CSI1_D2_N, C19 MIPI_CSI2_D3_N, C20 MIPI_CSI2_D0_N, C21 MIPI_CSI1_D3_N, C22 MIPI_CSI1_D1_N, C23 MIPI_CSI1_D2_P, D19 MIPI_CSI2_D3_P, D20 MIPI_CSI2_D0_P, D21 MIPI_CSI1_D3_P, D22 MIPI_CSI1_D1_P
part F pins: M1 HDMI_TX_P_LN_3, M2 HDMI_TX_M_LN_3, N1 HDMI_TX_M_LN_2, N2 HDMI_TX_P_LN_2, P1 HDMI_REXT, P3 HDMI_DDC_SDA, R1 HDMI_REFCLK_N, R2 HDMI_REFCLK_P, R3 HDMI_DDC_SCL, T1 HDMI_TX_P_LN_0, T2 HDMI_TX_M_LN_0, U1 HDMI_TX_M_LN_1, U2 HDMI_TX_P_LN_1, V1 HDMI_AUX_P, V2 HDMI_AUX_N, W2 HDMI_HPD, W3 HDMI_CEC
part G pins: A3 SAI1_MCLK, B2 SAI1_TXD2, B3 SAI1_TXD6, C1 SAI1_TXD7, C2 SAI1_TXD5, C3 SAI3_TXD, C4 SAI3_TXC, D1 SAI1_TXD3, D2 SAI1_TXD4, D3 SAI3_MCLK, E1 SAI1_TXC, E2 SAI1_TXD1, E6 SPDIF_EXT_CLK, F1 SAI1_RXD5, F2 SAI1_TXD0, F3 SAI3_RXD, F4 SAI3_RXC, F6 SPDIF_TX, G1 SAI1_RXD7, G2 SAI1_RXD6, G3 SAI3_TXFS, G4 SAI3_RXFS, G5 SAI2_TXD0, G6 SPDIF_RX, H1 SAI1_TXFS, H2 SAI1_RXD2, H3 SAI2_RXC, H4 SAI2_TXFS, H5 SAI2_MCLK, H6 SAI2_RXD0, J1 SAI1_RXD4, J2 SAI1_RXD3, J4 SAI2_RXFS, J5 SAI2_TXC, K1 SAI1_RXC, K2 SAI1_RXD0, K4 SAI5_MCLK, K5 SAI5_RXD3, L1 SAI1_RXFS, L2 SAI1_RXD1, L4 SAI5_RXD1, L5 SAI5_RXC, M4 SAI5_RXD2, M5 SAI5_RXD0, N4 SAI5_RXFS
part H pins: F21 NAND_CE2_B, G19 NAND_ALE, G20 NAND_DATA00, G21 NAND_CE1_B, H19 NAND_CE0_B, H20 NAND_CE3_B, H21 NAND_CLE, H22 NAND_DATA02, J20 NAND_DATA01, J21 NAND_DATA03, J22 NAND_DATA05, K19 NAND_RE_B, K20 NAND_READY_B, K21 NAND_WP_B, K22 NAND_WE_B, L19 NAND_DATA06, L20 NAND_DATA04, M19 NAND_DATA07, M20 NAND_DQS
part I pins: L21 SD2_CD_B, L22 SD2_CLK, L24 SD1_CMD, L25 SD1_CLK, M21 SD2_WP, M22 SD2_CMD, M24 SD1_DATA1, M25 SD1_DATA0, N21 SD2_DATA1, N22 SD2_DATA0, N24 SD1_DATA4, N25 SD1_DATA2, P21 SD2_DATA3, P22 SD2_DATA2, P24 SD1_DATA5, P25 SD1_DATA3, R22 SD2_RESET_B, R24 SD1_RESET_B, R25 SD1_DATA6, T24 SD1_STROBE, T25 SD1_DATA7
part J pins: N19 ENET_MDIO, N20 ENET_MDC, P19 ENET_TX_CTL, P20 ENET_TD3, R19 ENET_TD2, R20 ENET_TD0, R21 ENET_TD1, T19 ENET_TXC, T20 ENET_RXC, T21 ENET_RX_CTL, U19 ENET_RD0, U20 ENET_RD2, U21 ENET_RD1, V19 ENET_RD3
part K pins: A4 ECSPI1_MOSI, A5 ECSPI2_SS0, A6 UART3_RXD, A7 UART1_TXD, B4 ECSPI1_MISO, B5 ECSPI2_MISO, B6 UART2_RXD, B7 UART3_TXD, C5 ECSPI2_SCLK, C6 UART4_RXD, C7 UART1_RXD, D4 ECSPI1_SS0, D5 ECSPI1_SCLK, D6 UART2_TXD, D7 UART4_TXD, E5 ECSPI2_MOSI, E7 I2C1_SCL, E8 I2C1_SDA, E9 I2C3_SDA, F7 I2C2_SDA, F8 I2C4_SCL, F9 I2C4_SDA, G7 I2C2_SCL, G8 I2C3_SCL, J6 GPIO1_IO15, K6 GPIO1_IO13, K7 GPIO1_IO14, L6 GPIO1_IO11, L7 GPIO1_IO12, M6 GPIO1_IO09, M7 GPIO1_IO10, N5 GPIO1_IO06, N6 GPIO1_IO07, N7 GPIO1_IO08, P4 GPIO1_IO03, P5 GPIO1_IO04, P7 GPIO1_IO05, R4 GPIO1_IO02, T6 GPIO1_IO00, T7 GPIO1_IO01
part L pins: R23 CLK1_P, T5 JTAG_TCK, T22 CLK2_P, T23 CLK1_N, U5 JTAG_TDO, U6 JTAG_TRST_B, U7 JTAG_MOD, U22 CLK2_N, U24 XTALO_25M, U25 XTALI_25M, V5 JTAG_TMS, V6 BOOT_MODE1, V7 TEST_MODE, V20 PMIC_ON_REQ, V21 PMIC_STBY_REQ, V22 RTC, V24 XTALO_27M, V25 XTALI_27M, W5 JTAG_TDI, W6 BOOT_MODE0, W19 RTC_RESET_B, W20 POR_B, W21 ONOFF
part M pins: AA10 NVCC_DRAM2, AA11 VDDA_DRAM, AA15 NVCC_DRAM4, AB3 NVCC_DRAM6, AB8 NVCC_DRAM5, AB17 NVCC_DRAM3, AB23 NVCC_DRAM1, AC3 NVCC_DRAM10, AC6 NVCC_DRAM13, AC8 NVCC_DRAM12, AC14 NVCC_DRAM7, AC17 NVCC_DRAM8, AC20 NVCC_DRAM9, AC23 NVCC_DRAM11, AD5 NVCC_DRAM16, AD18 NVCC_DRAM15, AD21 NVCC_DRAM14, C11 USB2_VPTX, C12 USB1_VPTX, C18 MIPI_VDDHA1, D8 NVCC_UART, D11 USB2_VP, D12 USB1_VP, D17 MIPI_VDDHA2, D18 MIPI_VDDHA3, E3 NVCC_SAI3, E11 USB2_DVDD, E12 USB1_DVDD, E15 MIPI_VDD1, E17 MIPI_VDDA1, E18 MIPI_VDDA2, F5 NVCC_ECSPI, F11 USB2_VPH, F12 USB1_VPH, F15 MIPI_VDD2, F17 MIPI_VDDA3, F18 MIPI_VDDA4, F19 MIPI_VDDPLL, F22 PCIE_VP2, F23 PCIE_VPTX2, G11 USB2_VDD33, G12 USB1_VDD33, G14 VDD_ARM13, G15 VDD_ARM1, G16 VDD_ARM7, G22 PCIE_VP1, G23 PCIE_VPTX1, H7 NVCC_I2C, H14 VDD_ARM14, H15 VDD_ARM2, H16 VDD_ARM8, H23 PCIE_VPH1, J7 NVCC_SAI2, J9 VDD_GPU1, J10 VDD_GPU5, J15 VDD_ARM3, J16 VDD_ARM9, J23 PCIE_VPH2, K3 NVCC_SAI1_2, K9 VDD_GPU2, K10 VDD_GPU6, K12 VDD_SOC11, K14 VDDA_1P8_FPLL_ARM, K15 VDD_ARM4, K16 VDD_ARM10, L3 NVCC_SAI1_1, L9 VDD_GPU3, L10 VDD_GPU7, L12 VDD_SOC12, L13 VDD_SOC17, L15 VDD_ARM5, L16 VDD_ARM11, L18 NVCC_NAND1, L23 NVCC_SD1_2, M3 NVCC_SAI5, M9 VDD_GPU4, M10 VDD_GPU8, M12 VDD_SOC13, M13 VDD_SOC18, M15 VDD_ARM6, M16 VDD_ARM12, M18 NVCC_NAND2, M23 NVCC_SD1_1, N8 VDD_VPU1, N9 VDD_VPU2, N10 VDD_VPU3, N11 VDDA_1P8_SPLL_VIDEO2, N13 VDD_SOC19, N23 NVCC_SD2, P2 HDMI_AVDDIO, P9 VDD_VPU4, P10 VDD_VPU5, P12 VDD_SOC15, P13 VDD_SOC20, P15 VDD_SOC16, P16 VDD_SOC14, R5 NVCC_GPIO1, R6 NVCC_GPIO2, R8 VDD_SOC1, R9 VDD_SOC2, R10 VDD_SOC3, R11 VDD_SOC4, R12 VDD_SOC5, R13 VDD_SOC6, R14 VDD_SOC7, R15 VDD_SOC8, R16 VDD_SOC9, R17 EFUSE_VQPS, R18 VDD_SNVS, T8 VDD_SOC10, T15 VDDA_1P8_SPLL_DRAM, T16 VDDA_1P8_TSENSOR, T17 VDD_SOC21, T18 NVCC_ENET, U3 HDMI_AVDDCORE2, U4 HDMI_AVDDCORE1, U10 VDD_DRAM11, U11 VDD_DRAM8, U12 VDD_DRAM10, U13 VDD_DRAM12, U14 VDD_DRAM9, U17 VDDA_1P8_FPLL, U23 VDDA_1P8_LVDS, V3 HDMI_AVDDCLK, V9 VDD_DRAM1, V10 VDD_DRAM7, V11 VDD_DRAM6, V12 VDD_DRAM5, V13 VDD_DRAM4, V14 VDD_DRAM3, V15 VDD_DRAM2, V18 VDDA_0P9, W4 NVCC_JTAG, W17 VDDA_1P8_SPLL, W18 NVCC_SNVS, W23 VDDA_1P8_XTAL_27M, W24 VDDA_1P8_XTAL_25M, Y6 VDD_DRAM13, Y8 VDD_DRAM14, Y10 VDD_DRAM18, Y12 NVCC_DRAM18, Y14 NVCC_DRAM17, Y16 VDD_DRAM17, Y18 VDD_DRAM16, Y20 VDD_DRAM15
part N pins: A2 VSS12, A24 VSS6, AA5 VSS123, AA16 VSS124, AA21 VSS125, AB2 VSS126, AB9 VSS127, AB11 VSS128, AB18 VSS129, AB24 VSS130, AC4 VSS131, AC19 VSS132, AC22 VSS133, AD1 VSS134, AD7 VSS135, AD9 VSS136, AD11 VSS137, AD13 VSS138, AD16 VSS139, AD25 VSS140, AE2 VSS141, AE5 VSS87, AE21 VSS88, AE24 VSS96, B1 VSS43, B25 VSS1, C8 VSS2, C10 VSS3, C13 VSS4, C15 VSS5, C24 VSS7, D10 VSS8, D13 VSS9, D15 VSS10, D23 VSS11, E4 VSS13, E10 VSS14, E13 VSS15, E14 VSS16, E16 VSS18, E19 VSS19, E20 VSS17, E21 VSS20, E22 VSS21, E23 VSS22, F10 VSS23, F13 VSS24, F14 VSS25, F16 VSS27, F20 VSS26, G9 VSS28, G10 VSS29, G13 VSS30, G17 VSS31, G18 VSS32, G24 VSS33, H8 VSS34, H9 VSS35, H10 VSS36, H11 VSS37, H12 VSS38, H13 VSS39, H17 VSS40, H18 VSS41, J3 VSS42, J8 VSS44, J11 VSS45, J12 VSS46, J13 VSS47, J14 VSS48, J17 VSS49, J18 VSS50, J19 VSS51, K8 VSS52, K11 VSS53, K13 VSSA_FPLL_ARM, K17 VSS55, K18 VSS56, K23 VSS57, L8 VSS58, L11 VSS59, L14 VSS60, L17 VSS61, M8 VSS62, M11 VSS63, M14 VSS64, M17 VSS65, N3 VSS66, N12 VSSA_SPLL_VIDEO2, N14 VSS68, N15 VSS74, N16 VSS73, N17 VSS67, N18 VSS54, P6 VSS69, P8 VSS70, P11 VSS71, P14 VSS72, P17 VSS75, P18 VSS76, P23 VSS77, R7 VSS78, T3 VSS80, T4 VSS81, T9 VSS82, T10 VSS83, T11 VSS84, T12 VSS85, T13 VSS86, T14 VSSA_SPLL_DRAM, U8 VSS89, U9 VSS90, U15 VSS91, U16 VSSA_FPLL, U18 VSS92, V4 VSS93, V8 VSS94, V16 VSS95, V17 VSSA_SPLL, V23 VSSA_XTAL_25M, W1 VSS97, W7 VSS98, W8 VSS99, W9 VSS79, W10 VSS100, W11 VSS101, W12 VSS102, W13 VSS103, W14 VSS104, W15 VSS105, W16 VSS106, W22 VSSA_XTAL_27M, W25 VSS107, Y2 VSS108, Y3 VSS109, Y4 VSS110, Y5 VSS111, Y7 VSS112, Y9 VSS113, Y11 VSS114, Y13 VSS115, Y15 VSS116, Y17 VSS117, Y19 VSS118, Y21 VSS119, Y22 VSS120, Y23 VSS121, Y24 VSS122
part A text: i.MX8M - DDR; (LPDDR4/DDR4/DDR3)
part B text: i.MX8M - USB; USB_P0_VDD33; USB_P0_VPH; USB_P1_VDD33; USB_P1_VPH
part C text: i.MX8M - PCIe; PCIE0_VPH; PCIE1_VPH
part D text: i.MX8M - DSI; DSI_VDDHA
part E text: i.MX8M - CSI; CSI_P1_VDDHA; CSI_P2_VDDHA
part F text: i.MX8M - HDMI
part G text: i.MX8M - SAI; NVCC_SAI1
part H text: i.MX8M - NAND; NVCC_NAND
part I text: i.MX8M - SD; NVCC_SD1
part J text: i.MX8M - eNET
part L text: i.MX8M - MISC; VDDA